# Altium schematic symbol library RayPCB20210502.SchLib: 220 symbols
Pins are listed as number, name and electrical type; pins without a type are passive.

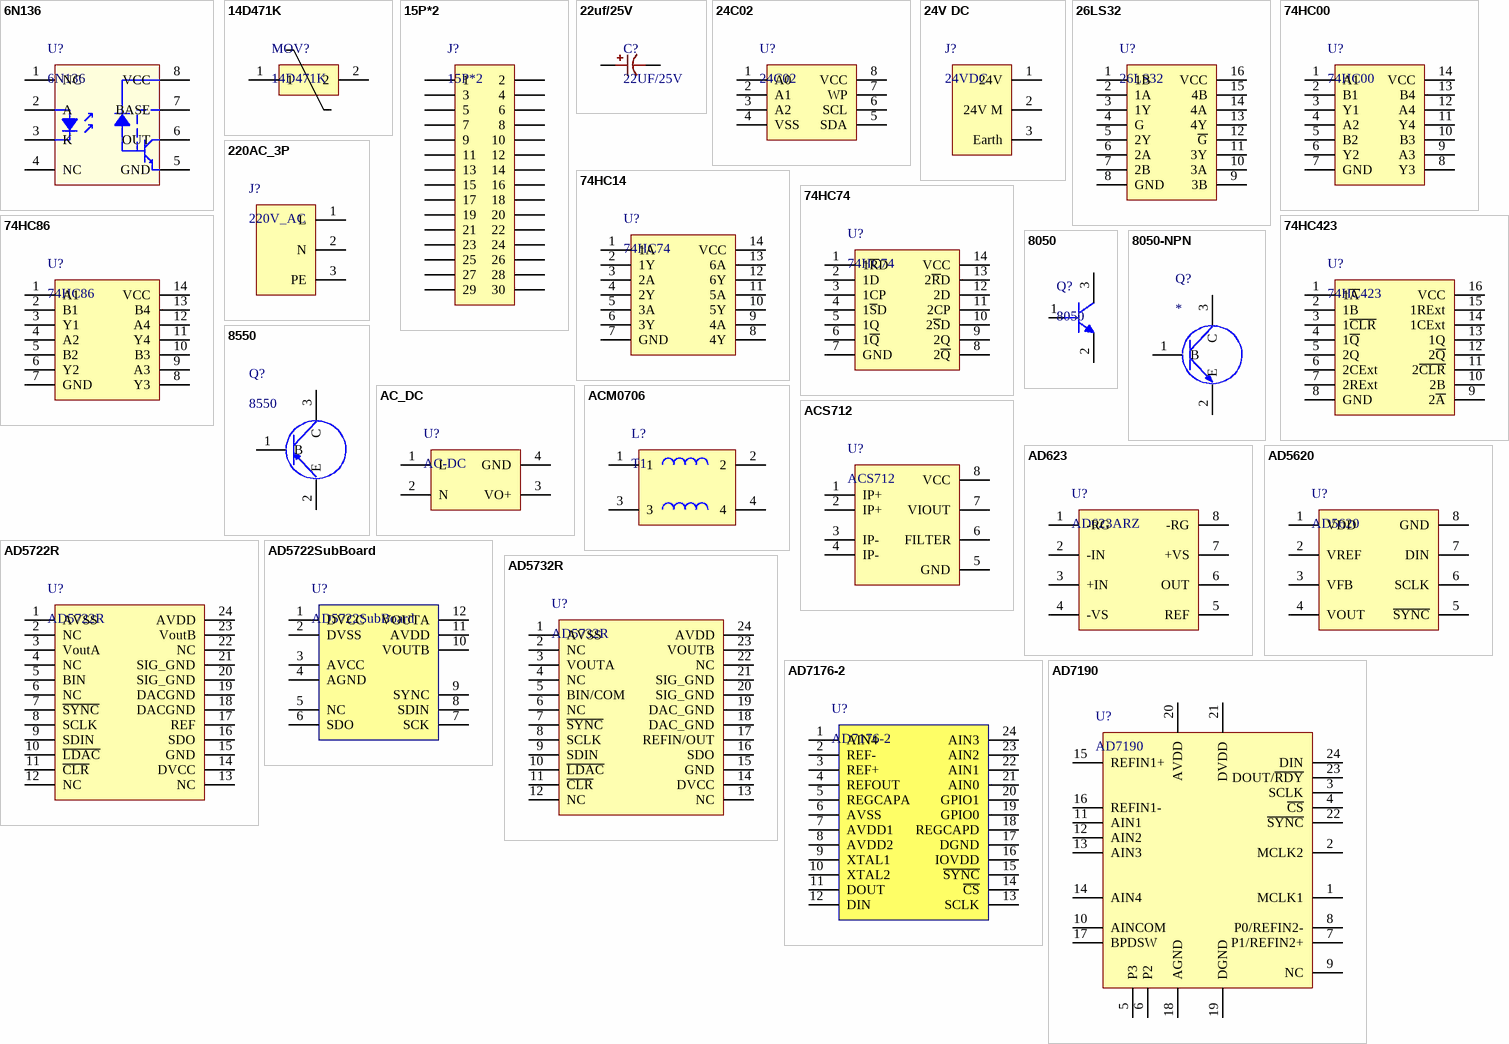
[diagram p0: symbols 6N136 to AD7190]

## 6N136
designator U?
pins: 1 NC, 2 A, 3 K, 4 NC, 5 GND, 6 OUT, 7 BASE, 8 VCC

## 14D471K
designator MOV?
footprint 14D471K
pins: 1, 2

## 15P*2
designator J?
footprint 2.54mm_15P*2
pins: 1, 2, 3, 4, 5, 6, 7, 8, 9, 10, 11, 12, 13, 14, 15, 16, 17, 18, 19, 20, 21, 22, 23, 24, 25, 26, 27, 28, 29, 30

## 22uf/25V
designator C?, comment 22UF/25V
footprint 22UF/25V (5*5.7)
pins: 1, 2

## 24C02
designator U?
footprint DIP8
pins: 1 A0, 2 A1, 3 A2, 4 VSS, 5 SDA, 6 SCL, 7 WP, 8 VCC

## 24V DC
designator J?, comment 24VDC
footprint CON3S
pins: 1 24V, 2 24V M, 3 Earth

## 26LS32
designator U?
pins: 1 1B, 2 1A, 3 1Y, 4 G, 5 2Y, 6 2A, 7 2B, 8 GND, 9 3B, 10 3A, 11 3Y, 12 ~{G}, 13 4Y, 14 4A, 15 4B, 16 VCC

## 74HC00
designator U?
footprint SOIC-14 (74HCXXX)
pins: 1 A1, 2 B1, 3 Y1, 4 A2, 5 B2, 6 Y2, 7 GND, 8 Y3, 9 A3, 10 B3, 11 Y4, 12 A4, 13 B4, 14 VCC

## 74HC14
designator U?, comment 74HC74
footprint SOIC-14 (74HCXXX)
pins: 1 1A, 2 1Y, 3 2A, 4 2Y, 5 3A, 6 3Y, 7 GND, 8 4Y, 9 4A, 10 5Y, 11 5A, 12 6Y, 13 6A, 14 VCC

## 74HC74
designator U?
footprint SOIC-14 (74HCXXX)
pins: 1 1~{R}D, 2 1D, 3 1CP, 4 1~{S}D, 5 1Q, 6 1~{Q}, 7 GND, 8 2~{Q}, 9 2Q, 10 2~{S}D, 11 2CP, 12 2D, 13 2~{R}D, 14 VCC

## 74HC86
designator U?
footprint SOIC-14 (74HCXXX)
pins: 1 A1, 2 B1, 3 Y1, 4 A2, 5 B2, 6 Y2, 7 GND, 8 Y3, 9 A3, 10 B3, 11 Y4, 12 A4, 13 B4, 14 VCC

## 74HC423
designator U?
pins: 1 1~{A}, 2 1B, 3 1~{CLR}, 4 1~{Q}, 5 2Q, 6 2CExt, 7 2RExt, 8 GND, 9 2~{A}, 10 2B, 11 2~{CLR}, 12 2~{Q}, 13 1Q, 14 1CExt, 15 1RExt, 16 VCC

## 220AC_3P
designator J?, comment 220V_AC
footprint CON3S
pins: 1 L, 2 N, 3 PE

## 8050
designator Q?
footprint SOT-23-3
pins: 1 B, 2 E, 3 C

## 8050-NPN
designator Q?
pins: 1 B, 2 E, 3 C

## 8550
designator Q?
footprint SOT-23-3
pins: 1 B, 2 E, 3 C

## AC_DC
designator U?, comment AC-DC
footprint XTQ3B-5-W (AC_DCXTQ3B-5-W)
pins: 1 L, 2 N, 3 VO+, 4 GND

## ACM0706
designator L?, comment T1
footprint ACM0706
pins: 1, 2, 3, 4

## ACS712
designator U?
footprint SOIC8
pins: 1 IP+, 2 IP+, 3 IP-, 4 IP-, 5 GND, 6 FILTER, 7 VIOUT, 8 VCC

## AD623
designator U?, comment AD623ARZ
footprint SOIC8
pins: 1 -RG, 2 -IN, 3 +IN, 4 -VS, 5 REF, 6 OUT, 7 +VS, 8 -RG

## AD5620
designator U?
pins: 1 VDD, 2 VREF, 3 VFB, 4 VOUT, 5 ~{SYNC}, 6 SCLK, 7 DIN, 8 GND

## AD5722R
designator U?
footprint TSSOP-24 (AD7190 RU-24)
pins: 1 AVSS, 2 NC, 3 VoutA, 4 NC, 5 BIN, 6 NC, 7 ~{SYNC}, 8 SCLK, 9 SDIN, 10 ~{LDAC}, 11 ~{CLR}, 12 NC, 13 NC, 14 DVCC, 15 GND, 16 SDO, 17 REF, 18 DACGND, 19 DACGND, 20 SIG_GND, 21 SIG_GND, 22 NC, 23 VoutB, 24 AVDD

## AD5722SubBoard
designator U?
footprint AD5722SubBoard
pins: 1 DVCC, 2 DVSS, 3 AVCC, 4 AGND, 5 NC, 6 SDO, 7 SCK, 8 SDIN, 9 SYNC, 10 VOUTB, 11 AVDD, 12 VOUTA

## AD5732R
designator U?
footprint TSSOP-24 (AD7190 RU-24)
pins: 1 AVSS, 2 NC, 3 VOUTA, 4 NC, 5 BIN/COM, 6 NC, 7 ~{SYNC}, 8 SCLK, 9 SDIN, 10 ~{LDAC}, 11 ~{CLR}, 12 NC, 13 NC, 14 DVCC, 15 GND, 16 SDO, 17 REFIN/OUT, 18 DAC_GND, 19 DAC_GND, 20 SIG_GND, 21 SIG_GND, 22 NC, 23 VOUTB, 24 AVDD

## AD7176-2
designator U?
footprint TSSOP-24 (AD7190 RU-24)
pins: 1 AIN4, 2 REF-, 3 REF+, 4 REFOUT, 5 REGCAPA, 6 AVSS, 7 AVDD1, 8 AVDD2, 9 XTAL1, 10 XTAL2, 11 DOUT, 12 DIN, 13 SCLK, 14 ~{CS}, 15 ~{SYNC}, 16 IOVDD, 17 DGND, 18 REGCAPD, 19 GPIO0, 20 GPIO1, 21 AIN0, 22 AIN1, 23 AIN2, 24 AIN3

## AD7190
designator U?
footprint TSSOP-24 (AD7190 RU-24)
pins: 1 MCLK1, 2 MCLK2, 3 SCLK, 4 ~{CS}, 5 P3, 6 P2, 7 P1/REFIN2+, 8 P0/REFIN2-, 9 NC, 10 AINCOM, 11 AIN1, 12 AIN2, 13 AIN3, 14 AIN4, 15 REFIN1+, 16 REFIN1-, 17 BPDSW, 18 AGND, 19 DGND, 20 AVDD, 21 DVDD, 22 ~{SYNC}, 23 DOUT/~{RDY}, 24 DIN

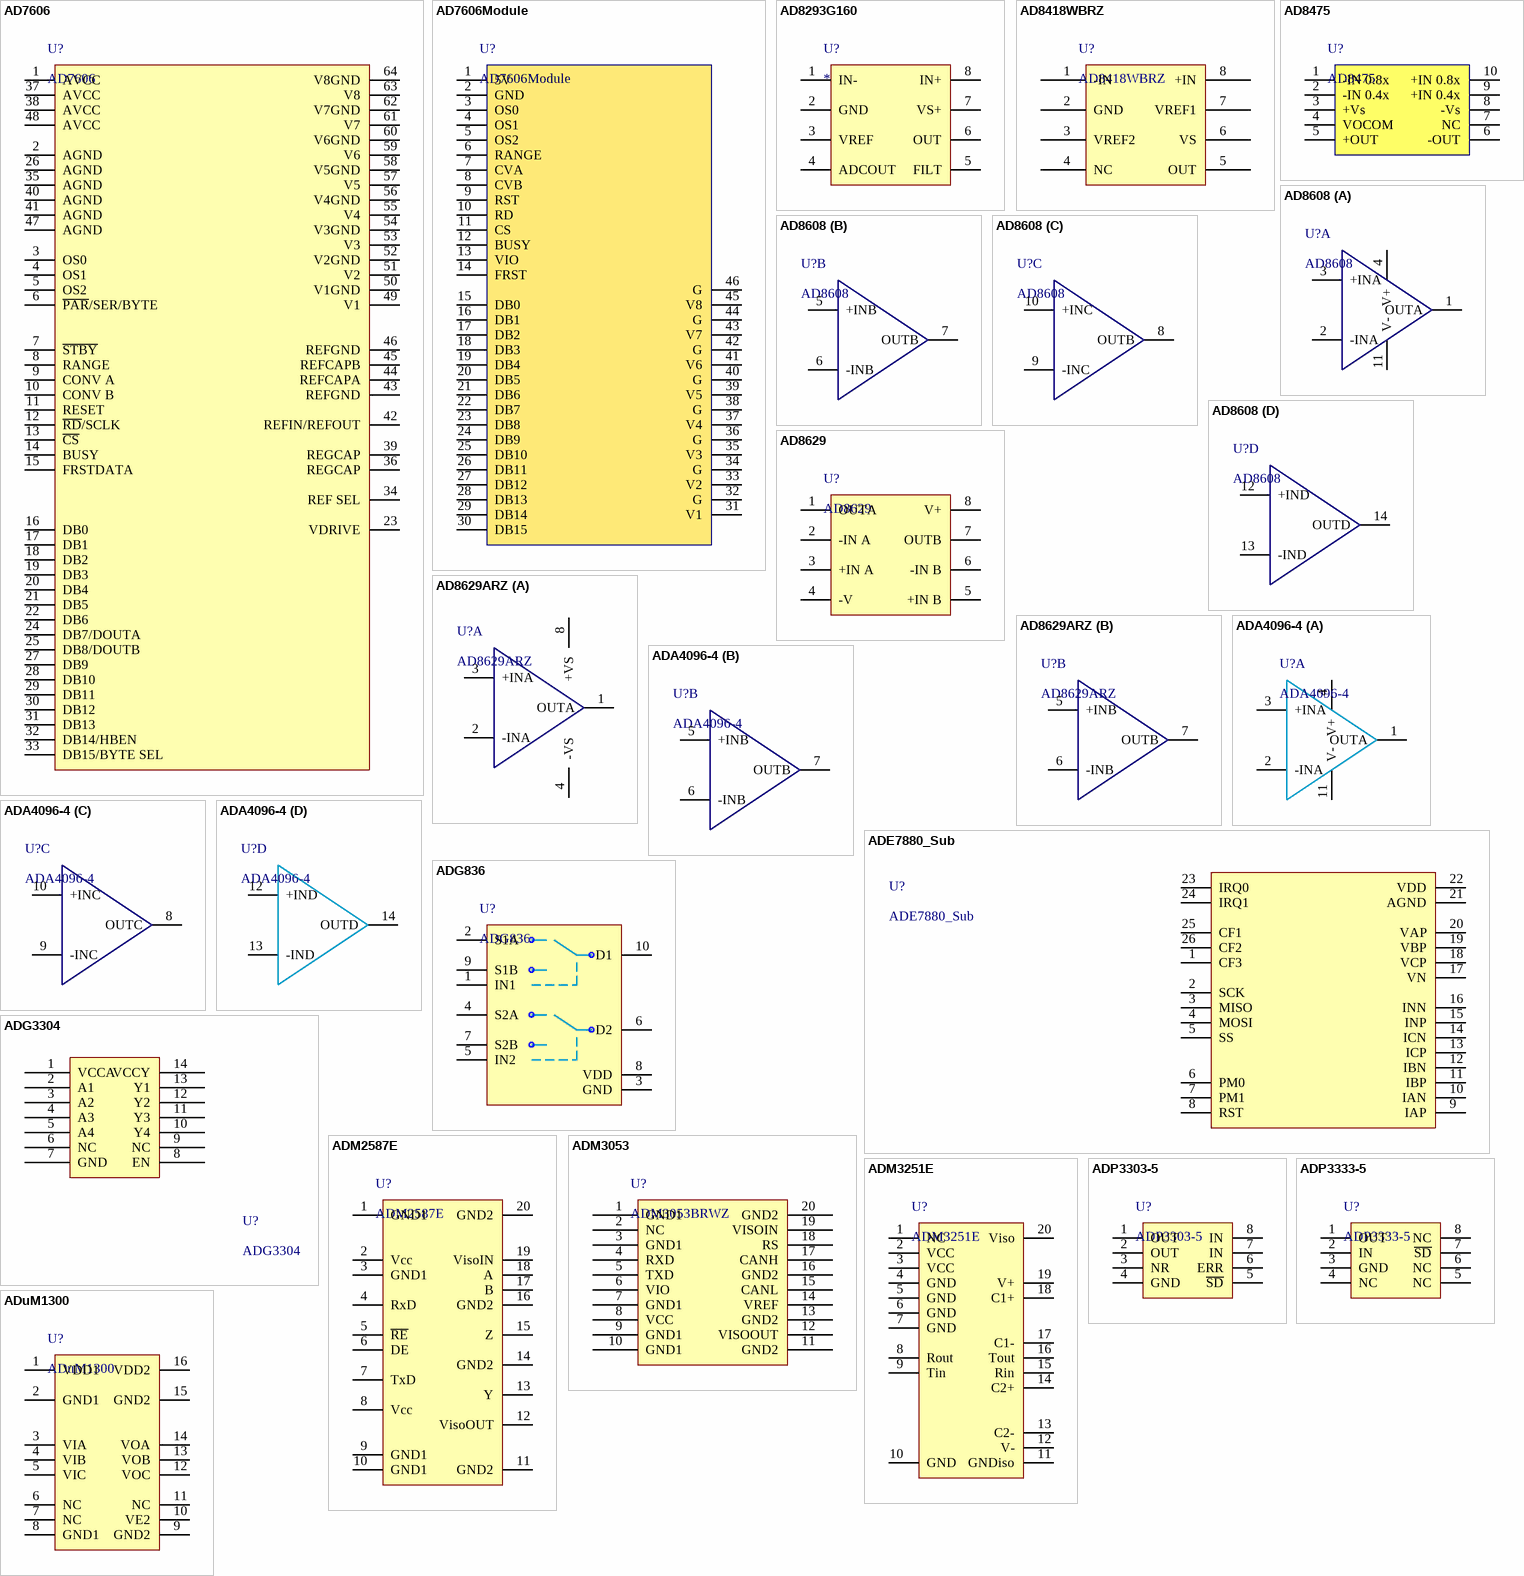
[diagram p1: symbols AD7606 to ADuM1300]

## AD7606
designator U?
footprint LQFP64
pins: 1 AVCC, 2 AGND, 3 OS0, 4 OS1, 5 OS2, 6 ~{PAR}/SER/BYTE, 7 ~{STBY}, 8 RANGE, 9 CONV A, 10 CONV B, 11 RESET, 12 ~{RD}/SCLK, 13 ~{CS}, 14 BUSY, 15 FRSTDATA, 16 DB0, 17 DB1, 18 DB2, 19 DB3, 20 DB4, 21 DB5, 22 DB6, 23 VDRIVE, 24 DB7/DOUTA, 25 DB8/DOUTB, 26 AGND, 27 DB9, 28 DB10, 29 DB11, 30 DB12, 31 DB13, 32 DB14/HBEN, 33 DB15/BYTE SEL, 34 REF SEL, 35 AGND, 36 REGCAP, 37 AVCC, 38 AVCC, 39 REGCAP, 40 AGND, 41 AGND, 42 REFIN/REFOUT, 43 REFGND, 44 REFCAPA, 45 REFCAPB, 46 REFGND, 47 AGND, 48 AVCC, 49 V1, 50 V1GND, 51 V2, 52 V2GND, 53 V3, 54 V3GND, 55 V4, 56 V4GND, 57 V5, 58 V5GND, 59 V6, 60 V6GND, 61 V7, 62 V7GND, 63 V8, 64 V8GND

## AD7606Module
designator U?
footprint AD7606Module
pins: 1 5V, 2 GND, 3 OS0, 4 OS1, 5 OS2, 6 RANGE, 7 CVA, 8 CVB, 9 RST, 10 RD, 11 CS, 12 BUSY, 13 VIO, 14 FRST, 15 DB0, 16 DB1, 17 DB2, 18 DB3, 19 DB4, 20 DB5, 21 DB6, 22 DB7, 23 DB8, 24 DB9, 25 DB10, 26 DB11, 27 DB12, 28 DB13, 29 DB14, 30 DB15, 31 V1, 32 G, 33 V2, 34 G, 35 V3, 36 G, 37 V4, 38 G, 39 V5, 40 G, 41 V6, 42 G, 43 V7, 44 G, 45 V8, 46 G

## AD8293G160
designator U?
pins: 1 IN-, 2 GND, 3 VREF, 4 ADCOUT, 5 FILT, 6 OUT, 7 VS+, 8 IN+

## AD8418WBRZ
designator U?
footprint SOIC8
pins: 1 -IN, 2 GND, 3 VREF2, 4 NC, 5 OUT, 6 VS, 7 VREF1, 8 +IN

## AD8475
designator U?
footprint MSOP-10 (RM-10(AD8475))
pins: 1 -IN 0.8x, 2 -IN 0.4x, 3 +Vs, 4 VOCOM, 5 +OUT, 6 -OUT, 7 NC, 8 -Vs, 9 +IN 0.4x, 10 +IN 0.8x

## AD8608
designator U?
footprint SOIC-14 (74HCXXX)
part A pins: 1 OUTA, 2 -INA, 3 +INA, 4 V+, 11 V-
part B pins: 5 +INB, 6 -INB, 7 OUTB
part C pins: 8 OUTB, 9 -INC, 10 +INC
part D pins: 12 +IND, 13 -IND, 14 OUTD

## AD8629
designator U?
footprint SOIC8
pins: 1 OUTA, 2 -IN A, 3 +IN A, 4 -V, 5 +IN B, 6 -IN B, 7 OUTB, 8 V+

## AD8629ARZ
designator U?
footprint SOIC8
part A pins: 1 OUTA, 2 -INA, 3 +INA, 4 -VS, 8 +VS
part B pins: 5 +INB, 6 -INB, 7 OUTB

## ADA4096-4
designator U?
footprint TSSOP-14
part A pins: 1 OUTA, 2 -INA, 3 +INA, 4 V+, 11 V-
part B pins: 5 +INB, 6 -INB, 7 OUTB
part C pins: 8 OUTC, 9 -INC, 10 +INC
part D pins: 12 +IND, 13 -IND, 14 OUTD

## ADE7880_Sub
designator U?
footprint ADE7880_Sub
pins: 1 CF3, 2 SCK, 3 MISO, 4 MOSI, 5 SS, 6 PM0, 7 PM1, 8 RST, 9 IAP, 10 IAN, 11 IBP, 12 IBN, 13 ICP, 14 ICN, 15 INP, 16 INN, 17 VN, 18 VCP, 19 VBP, 20 VAP, 21 AGND, 22 VDD, 23 IRQ0, 24 IRQ1, 25 CF1, 26 CF2

## ADG836
designator U?
footprint MSOP-10 (RM-10(AD8475))
pins: 1 IN1, 2 S1A, 3 GND, 4 S2A, 5 IN2, 6 D2, 7 S2B, 8 VDD, 9 S1B, 10 D1

## ADG3304
designator U?
footprint TSSOP-14
pins: 1 VCCA, 2 A1, 3 A2, 4 A3, 5 A4, 6 NC, 7 GND, 8 EN, 9 NC, 10 Y4, 11 Y3, 12 Y2, 13 Y1, 14 VCCY

## ADM2587E
designator U?
footprint SOIC W 20
pins: 1 GND1, 2 Vcc, 3 GND1, 4 RxD, 5 ~{RE}, 6 DE, 7 TxD, 8 Vcc, 9 GND1, 10 GND1, 11 GND2, 12 VisoOUT, 13 Y, 14 GND2, 15 Z, 16 GND2, 17 B, 18 A, 19 VisoIN, 20 GND2

## ADM3053
designator U?, comment ADM3053BRWZ
footprint SOIC W 20
pins: 1 GND1, 2 NC, 3 GND1, 4 RXD, 5 TXD, 6 VIO, 7 GND1, 8 VCC, 9 GND1, 10 GND1, 11 GND2, 12 VISOOUT, 13 GND2, 14 VREF, 15 CANL, 16 GND2, 17 CANH, 18 RS, 19 VISOIN, 20 GND2

## ADM3251E
designator U?
footprint SOIC W 20
pins: 1 NC, 2 VCC, 3 VCC, 4 GND, 5 GND, 6 GND, 7 GND, 8 Rout, 9 Tin, 10 GND, 11 GNDiso, 12 V-, 13 C2-, 14 C2+, 15 Rin, 16 Tout, 17 C1-, 18 C1+, 19 V+, 20 Viso

## ADP3303-5
designator U?
pins: 1 OUT, 2 OUT, 3 NR, 4 GND, 5 ~{SD}, 6 ERR, 7 IN, 8 IN

## ADP3333-5
designator U?
pins: 1 OUT, 2 IN, 3 GND, 4 NC, 5 NC, 6 NC, 7 ~{SD}, 8 NC

## ADuM1300
designator U?
footprint SOL-16 (ADUM1300)
pins: 1 VDD1, 2 GND1, 3 VIA, 4 VIB, 5 VIC, 6 NC, 7 NC, 8 GND1, 9 GND2, 10 VE2, 11 NC, 12 VOC, 13 VOB, 14 VOA, 15 GND2, 16 VDD2

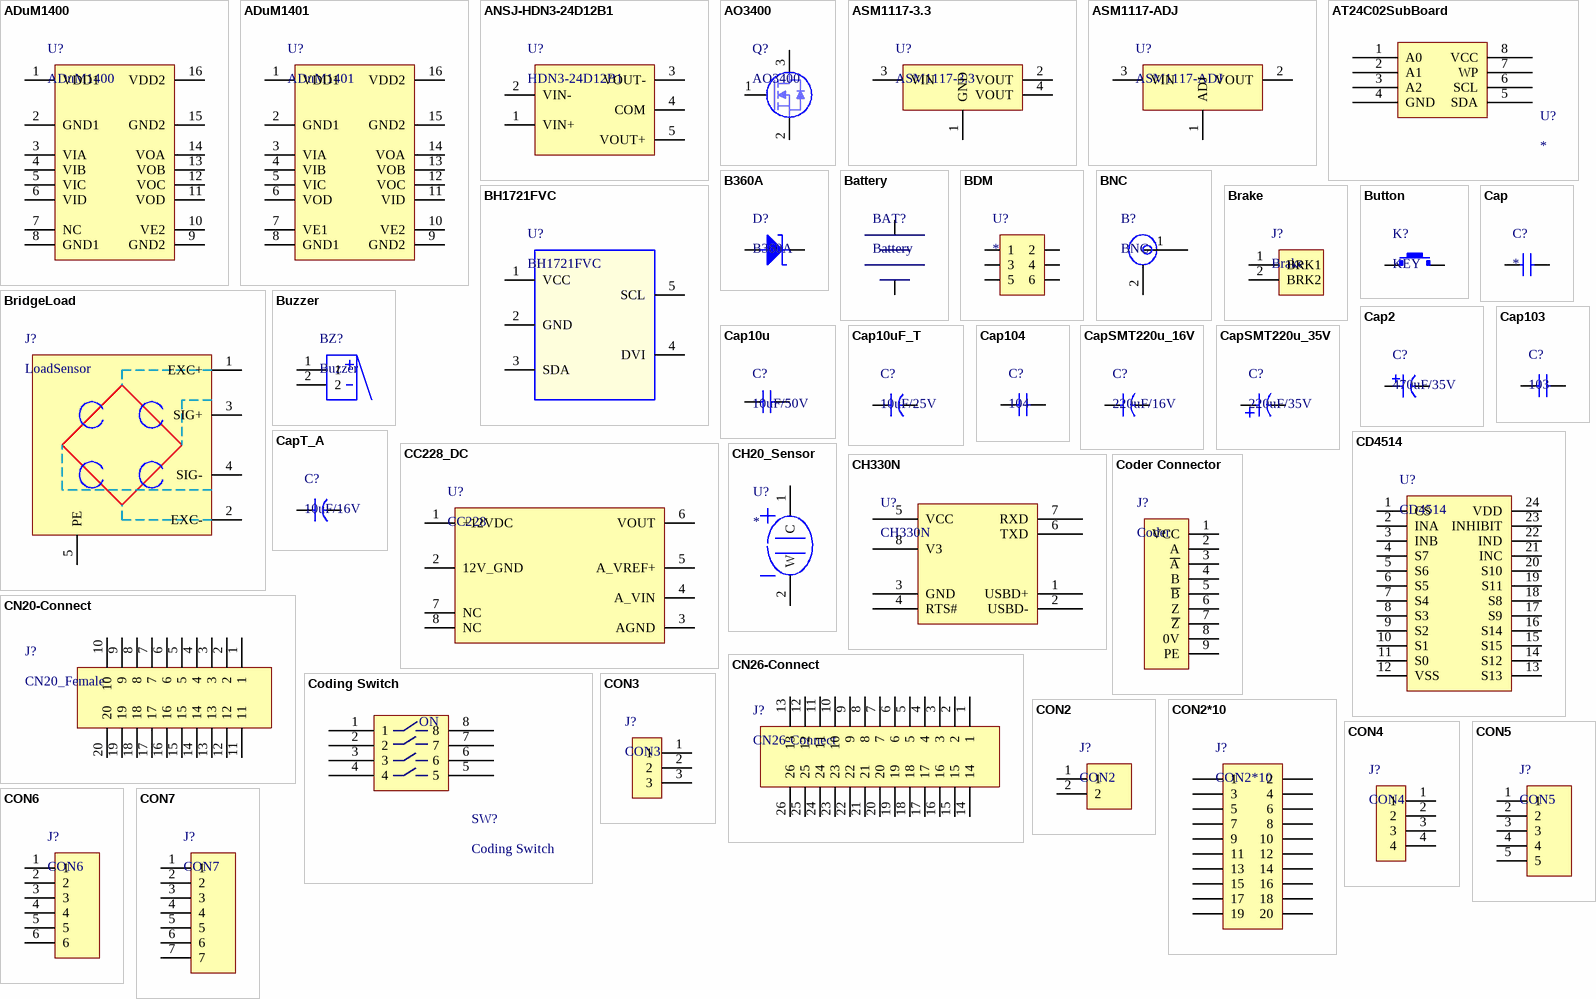
[diagram p2: symbols ADuM1400 to CON7]

## ADuM1400
designator U?
footprint SOL-16 (ADUM1300)
pins: 1 VDD1, 2 GND1, 3 VIA, 4 VIB, 5 VIC, 6 VID, 7 NC, 8 GND1, 9 GND2, 10 VE2, 11 VOD, 12 VOC, 13 VOB, 14 VOA, 15 GND2, 16 VDD2

## ADuM1401
designator U?
footprint SOL-16 (ADUM1300)
pins: 1 VDD1, 2 GND1, 3 VIA, 4 VIB, 5 VIC, 6 VOD, 7 VE1, 8 GND1, 9 GND2, 10 VE2, 11 VID, 12 VOC, 13 VOB, 14 VOA, 15 GND2, 16 VDD2

## ANSJ-HDN3-24D12B1
designator U?, comment HDN3-24D12B1
footprint HDN3-24D12B1 (24V-+-12V 3W)
pins: 1 VIN+, 2 VIN-, 3 VOUT-, 4 COM, 5 VOUT+

## AO3400
designator Q?
footprint SOT-23-3
pins: 1 G, 2 S, 3 D

## ASM1117-3.3
designator U?
footprint SOT-223
pins: 1 GND, 2 VOUT, 3 VIN, 4 VOUT

## ASM1117-ADJ
designator U?
footprint SOT-223
pins: 1 ADJ, 2 VOUT, 3 VIN

## AT24C02SubBoard
designator U?
footprint AT24C02SubBoard
pins: 1 A0, 2 A1, 3 A2, 4 GND, 5 SDA, 6 SCL, 7 WP, 8 VCC

## B360A
designator D?
footprint SMA (RS1M)
pins: 1, 2

## Battery
designator BAT?
footprint BATTERY (SO_2)
pins: 1, 2

## BDM
designator U?
pins: 1, 2, 3, 4, 5, 6

## BH1721FVC
designator U?
footprint WSOF5 (BH1721)
pins: 1 VCC, 2 GND, 3 SDA, 4 DVI, 5 SCL

## BNC
designator B?
footprint BNC_4_1
pins: 1, 2

## Brake
designator J?
pins: 1 BRK1, 2 BRK2

## BridgeLoad
designator J?, comment LoadSensor
pins: 1 EXC+, 2 EXC-, 3 SIG+, 4 SIG-, 5 PE

## Button
designator K?, comment KEY
footprint Key
pins: 1, 2

## Buzzer
designator BZ?
footprint BUZZER
pins: 1, 2

## Cap
designator C?
Value: *
footprint 0805C
pins: 1, 2

## Cap2
designator C?, comment 470uF/35V
pins: 1, 2

## Cap10u
designator C?, comment 10uF/50V
Value: 10uF/50V
footprint 1210c
pins: 1, 2

## Cap10uF_T
designator C?, comment 10uF/25V
Value: 10uF/16V
footprint 1210C_TAN
pins: 1, 2

## Cap103
designator C?, comment 103
footprint 0805C
pins: 1, 2

## Cap104
designator C?, comment 104
Value: 104
footprint 0805C
pins: 1, 2

## CapSMT220u_16V
designator C?, comment 220uF/16V
footprint ECAP_220u (220u/16V_SMT)
pins: 1, 2

## CapSMT220u_35V
designator C?, comment 220uF/35V
footprint ECAP_220u35V (220u/35V)
pins: 1, 2

## CapT_A
designator C?, comment 10uF/16V
footprint 1210_TAN (钽电容00UF/16V)
pins: 1, 2

## CC228_DC
designator U?, comment CC228
footprint CC228
pins: 1 +12VDC, 2 12V_GND, 3 AGND, 4 A_VIN, 5 A_VREF+, 6 VOUT, 7 NC, 8 NC

## CD4514
designator U?
footprint SOIC 24
pins: 1 CS, 2 INA, 3 INB, 4 S7, 5 S6, 6 S5, 7 S4, 8 S3, 9 S2, 10 S1, 11 S0, 12 VSS, 13 S13, 14 S12, 15 S15, 16 S14, 17 S9, 18 S8, 19 S11, 20 S10, 21 INC, 22 IND, 23 INHIBIT, 24 VDD

## CH20_Sensor
designator U?
footprint ME2_CH2O (CH2O SENSOR)
pins: 1 C, 2 W

## CH330N
designator U?
footprint SOIC8
pins: 1 USBD+, 2 USBD-, 3 GND, 4 RTS#, 5 VCC, 6 TXD, 7 RXD, 8 V3

## CN20-Connect
designator J?, comment CN20_Female
footprint CN20-Female
pins: 1, 2, 3, 4, 5, 6, 7, 8, 9, 10, 11, 12, 13, 14, 15, 16, 17, 18, 19, 20

## CN26-Connect
designator J?
footprint CN26-Female
pins: 1, 2, 3, 4, 5, 6, 7, 8, 9, 10, 11, 12, 13, 14, 15, 16, 17, 18, 19, 20, 21, 22, 23, 24, 25, 26

## Coder Connector
designator J?, comment Coder
pins: 1 VCC, 2 A, 3 ~{A}, 4 B, 5 ~{B}, 6 Z, 7 ~{Z}, 8 0V, 9 PE

## Coding Switch
designator SW?
pins: 1, 2, 3, 4, 5, 6, 7, 8
text: ON

## CON2
designator J?
footprint CON2S
pins: 1, 2

## CON2*10
designator J?
pins: 1, 2, 3, 4, 5, 6, 7, 8, 9, 10, 11, 12, 13, 14, 15, 16, 17, 18, 19, 20

## CON3
designator J?
pins: 1, 2, 3

## CON4
designator J?
pins: 1, 2, 3, 4

## CON5
designator J?
pins: 1, 2, 3, 4, 5

## CON6
designator J?
pins: 1, 2, 3, 4, 5, 6

## CON7
designator J?
pins: 1, 2, 3, 4, 5, 6, 7

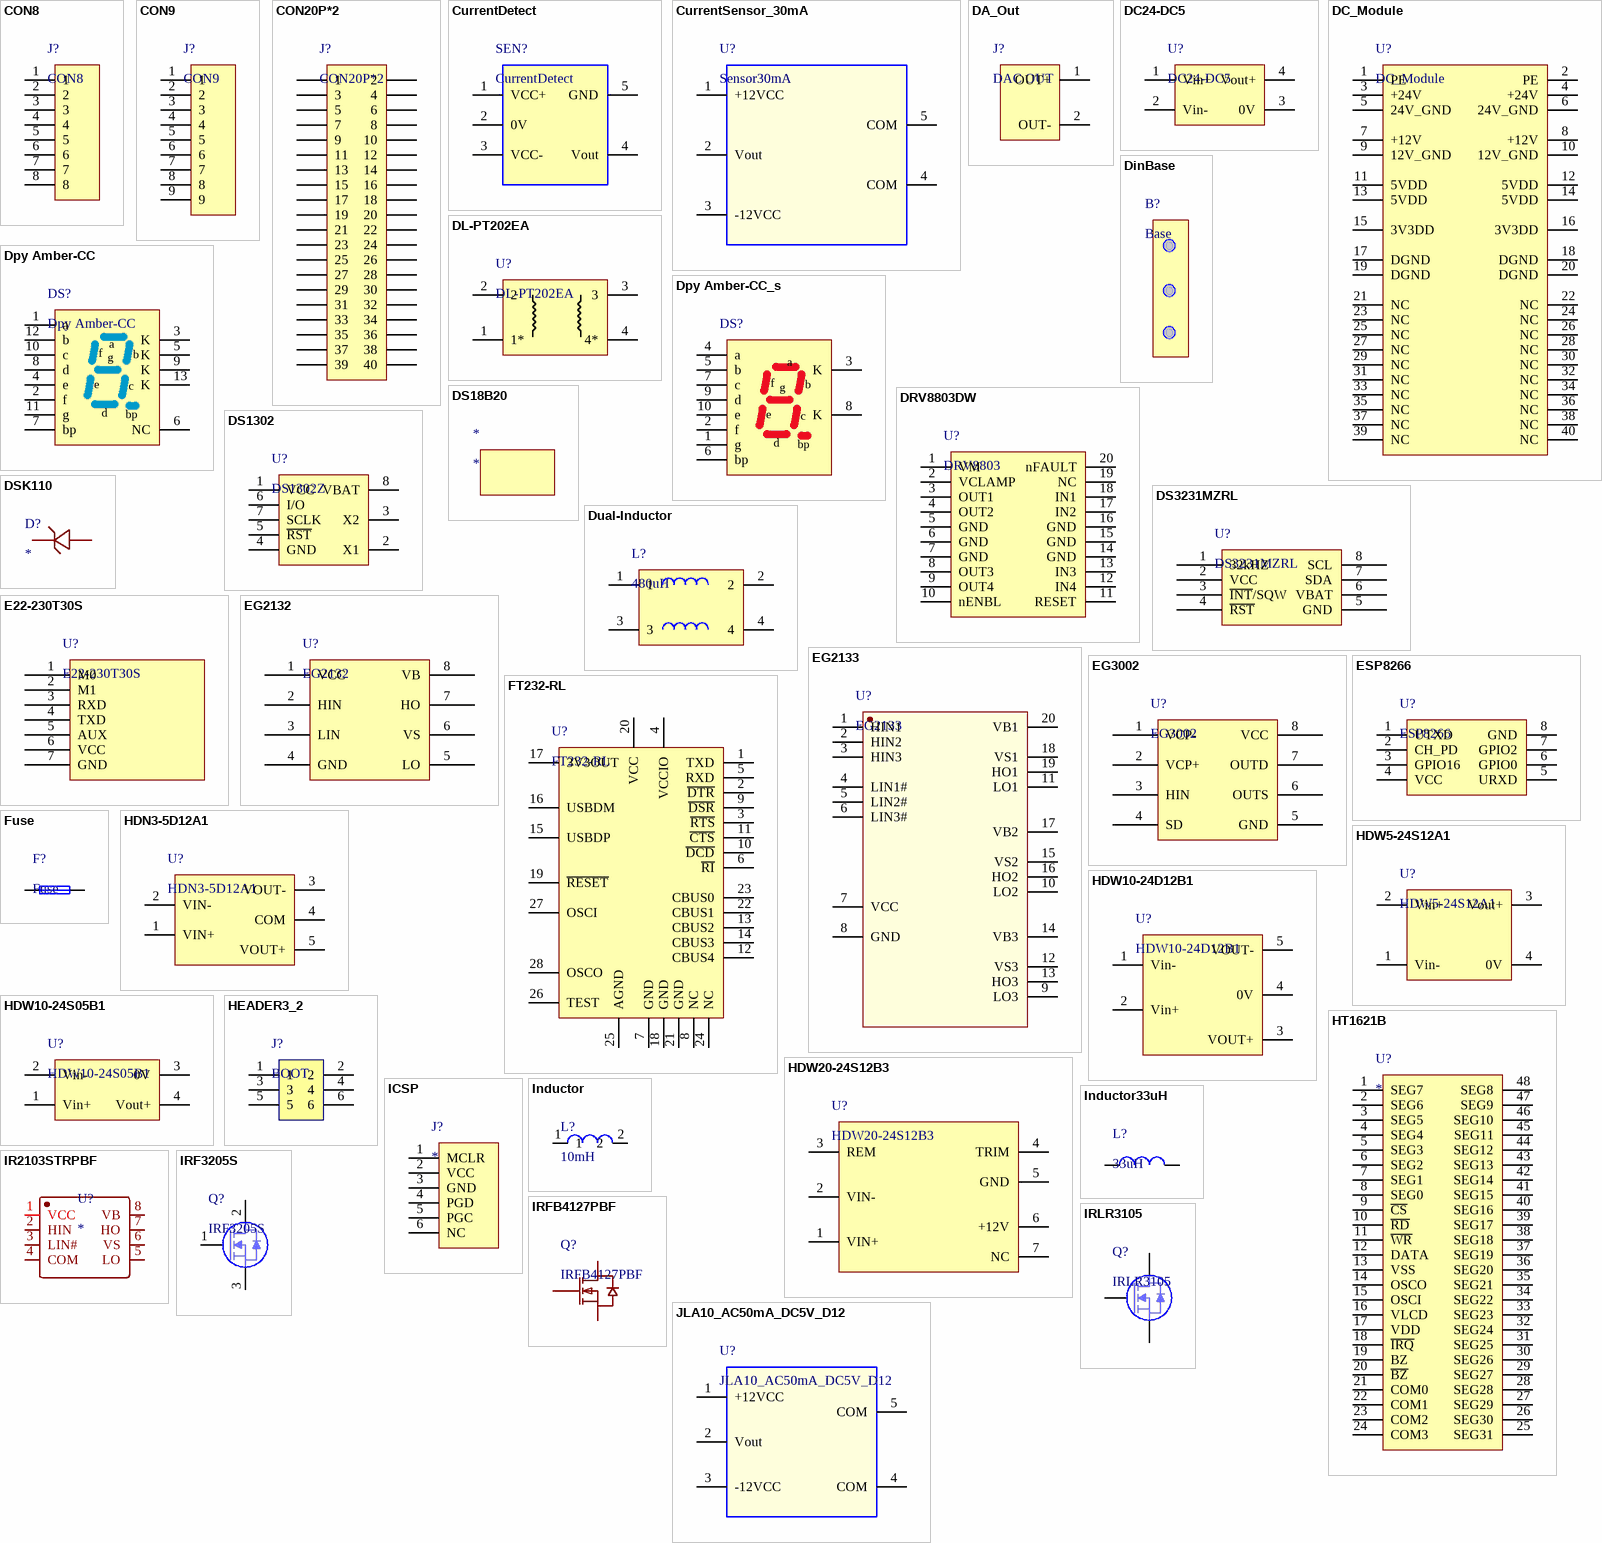
[diagram p3: symbols CON8 to JLA10_AC50mA_DC5V_D12]

## CON8
designator J?
footprint CON8S
pins: 1, 2, 3, 4, 5, 6, 7, 8

## CON9
designator J?
footprint CON9S
pins: 1, 2, 3, 4, 5, 6, 7, 8, 9

## CON20P*2
designator J?
footprint 2.54mm-20P*2
pins: 1, 2, 3, 4, 5, 6, 7, 8, 9, 10, 11, 12, 13, 14, 15, 16, 17, 18, 19, 20, 21, 22, 23, 24, 25, 26, 27, 28, 29, 30, 31, 32, 33, 34, 35, 36, 37, 38, 39, 40

## CurrentDetect
designator SEN?
pins: 1 VCC+, 2 0V, 3 VCC-, 4 Vout, 5 GND

## CurrentSensor_30mA
designator U?, comment Sensor30mA
footprint CurrentSensor
pins: 1 +12VCC, 2 Vout, 3 -12VCC, 4 COM, 5 COM

## DA_Out
designator J?, comment DAC OUT
pins: 1 OUT+, 2 OUT-

## DC24-DC5
designator U?
footprint FEC15-24S05W (24V DC -5V DC)
pins: 1 Vin+, 2 Vin-, 3 0V, 4 Vout+

## DC_Module
designator U?
footprint DC_Module
pins: 1 PE, 2 PE, 3 +24V, 4 +24V, 5 24V_GND, 6 24V_GND, 7 +12V, 8 +12V, 9 12V_GND, 10 12V_GND, 11 5VDD, 12 5VDD, 13 5VDD, 14 5VDD, 15 3V3DD, 16 3V3DD, 17 DGND, 18 DGND, 19 DGND, 20 DGND, 21 NC, 22 NC, 23 NC, 24 NC, 25 NC, 26 NC, 27 NC, 28 NC, 29 NC, 30 NC, 31 NC, 32 NC, 33 NC, 34 NC, 35 NC, 36 NC, 37 NC, 38 NC, 39 NC, 40 NC

## DinBase
designator B?, comment Base
footprint DINBase

## DL-PT202EA
designator U?
footprint DL-PT202EA
pins: 1 1*, 2, 3, 4 4*

## Dpy Amber-CC
designator DS?
footprint LEDDIP-13/C5.08RHD (LargerONE)
pins: 1 a, 2 f, 3 K, 4 e, 5 K, 6 NC, 7 bp, 8 d, 9 K, 10 c, 11 g, 12 b, 13 K

## Dpy Amber-CC_s
designator DS?, comment DS  (value not drawn)
footprint LEDDIP-10/C5.08RHD (SmallOne)
pins: 1 g, 2 f, 3 K, 4 a, 5 b, 6 bp, 7 c, 8 K, 9 d, 10 e

## DRV8803DW
designator U?, comment DRV8803
footprint SOIC W 20
pins: 1 VM, 2 VCLAMP, 3 OUT1, 4 OUT2, 5 GND, 6 GND, 7 GND, 8 OUT3, 9 OUT4, 10 nENBL, 11 RESET, 12 IN4, 13 IN3, 14 GND, 15 GND, 16 GND, 17 IN2, 18 IN1, 19 NC, 20 nFAULT

## DS18B20
designator *

## DS1302
designator U?, comment DS1302Z
footprint SOIC8
pins: 1 VCC, 2 X1, 3 X2, 4 GND, 5 ~{RST}, 6 I/O, 7 SCLK, 8 VBAT

## DS3231MZRL
designator U?
footprint SO_8 (MAX3485ESA)
pins: 1 32kHZ, 2 VCC, 3 ~{INT}/SQW, 4 ~{RST}, 5 GND, 6 VBAT, 7 SDA, 8 SCL

## DSK110
designator D?
footprint DSK110 (SOD-123)
pins: 1 C, 2 A

## Dual-Inductor
designator L?, comment 480uH
footprint EP13M (共模电感)
pins: 1, 2, 3, 4

## E22-230T30S
designator U?
footprint E22-230T30S
pins: 1 M0, 2 M1, 3 RXD, 4 TXD, 5 AUX, 6 VCC, 7 GND

## EG2132
designator U?
footprint SOP8-T (6N136)
pins: 1 VCC, 2 HIN, 3 LIN, 4 GND, 5 LO, 6 VS, 7 HO, 8 VB

## EG2133
designator U?
footprint TSSOP20
pins: 1 HIN1, 2 HIN2, 3 HIN3, 4 LIN1#, 5 LIN2#, 6 LIN3#, 7 VCC, 8 GND, 9 LO3, 10 LO2, 11 LO1, 12 VS3, 13 HO3, 14 VB3, 15 VS2, 16 HO2, 17 VB2, 18 VS1, 19 HO1, 20 VB1
1 alternate drawing of the same symbol

## EG3002
designator U?
footprint SOP8-T (6N136)
pins: 1 VCP-, 2 VCP+, 3 HIN, 4 SD, 5 GND, 6 OUTS, 7 OUTD, 8 VCC

## ESP8266
designator U?
footprint 2.54_4Px2_PHI
pins: 1 UTXD, 2 CH_PD, 3 GPIO16, 4 VCC, 5 URXD, 6 GPIO0, 7 GPIO2, 8 GND

## FT232-RL
designator U?
footprint SSOP28 (FT232_RL)
pins: 1 TXD, 2 ~{DTR}, 3 ~{RTS}, 4 VCCIO, 5 RXD, 6 ~{RI}, 7 GND, 8 NC, 9 ~{DSR}, 10 ~{DCD}, 11 ~{CTS}, 12 CBUS4, 13 CBUS2, 14 CBUS3, 15 USBDP, 16 USBDM, 17 3V3OUT, 18 GND, 19 ~{RESET}, 20 VCC, 21 GND, 22 CBUS1, 23 CBUS0, 24 NC, 25 AGND, 26 TEST, 27 OSCI, 28 OSCO

## Fuse
designator F?
pins: 1, 2

## HDN3-5D12A1
designator U?
footprint HDN3-24D12B1 (24V-+-12V 3W)
pins: 1 VIN+, 2 VIN-, 3 VOUT-, 4 COM, 5 VOUT+

## HDW5-24S12A1
designator U?
footprint HDW5-24S12A1
pins: 1 Vin-, 2 Vin+, 3 Vout+, 4 0V

## HDW10-24D12B1
designator U?
footprint HDW10-24D12B1
pins: 1 Vin-, 2 Vin+, 3 VOUT+, 4 0V, 5 VOUT-

## HDW10-24S05B1
designator U?
footprint FEC15-24S05W (24V DC -5V DC)
pins: 1 Vin+, 2 Vin-, 3 0V, 4 Vout+

## HDW20-24S12B3
designator U?
footprint HDW20-24S12B3
pins: 1 VIN+, 2 VIN-, 3 REM, 4 TRIM, 5 GND, 6 +12V, 7 NC

## HEADER3_2
designator J?, comment BOOT
footprint 2.54PHI3_2
pins: 1, 2, 3, 4, 5, 6

## HT1621B
designator U?
footprint SOP-48
pins: 1 SEG7, 2 SEG6, 3 SEG5, 4 SEG4, 5 SEG3, 6 SEG2, 7 SEG1, 8 SEG0, 9 ~{CS}, 10 ~{RD}, 11 ~{WR}, 12 DATA, 13 VSS, 14 OSCO, 15 OSCI, 16 VLCD, 17 VDD, 18 ~{IRQ}, 19 BZ, 20 ~{BZ}, 21 COM0, 22 COM1, 23 COM2, 24 COM3, 25 SEG31, 26 SEG30, 27 SEG29, 28 SEG28, 29 SEG27, 30 SEG26, 31 SEG25, 32 SEG24, 33 SEG23, 34 SEG22, 35 SEG21, 36 SEG20, 37 SEG19, 38 SEG18, 39 SEG17, 40 SEG16, 41 SEG15, 42 SEG14, 43 SEG13, 44 SEG12, 45 SEG11, 46 SEG10, 47 SEG9, 48 SEG8

## ICSP
designator J?
footprint ICSP
pins: 1 MCLR, 2 VCC, 3 GND, 4 PGD, 5 PGC, 6 NC

## Inductor
designator L?, comment 10mH
pins: 1, 2

## Inductor33uH
designator L?, comment 33uH
footprint L330 (Inductor 33uH)
pins: 1, 2

## IR2103STRPBF
designator U?
footprint IR2103STRPBF
pins: 1 VCC, 2 HIN, 3 LIN#, 4 COM, 5 LO, 6 VS, 7 HO, 8 VB

## IRF3205S
designator Q?
footprint D2PAK
pins: 1 D, 2 G, 3 S

## IRFB4127PBF
designator Q?
footprint IRFB4127 (TO-220AB)
pins: 1 G, 2 D, 3 S

## IRLR3105
designator Q?
footprint TO-252AA-RF3303B (IRLR3303 NMOS)
pins: 1 G, 2 D, 3 S

## JLA10_AC50mA_DC5V_D12
designator U?
footprint JLA10_AC50mA_DC5V_D12
pins: 1 +12VCC, 2 Vout, 3 -12VCC, 4 COM, 5 COM

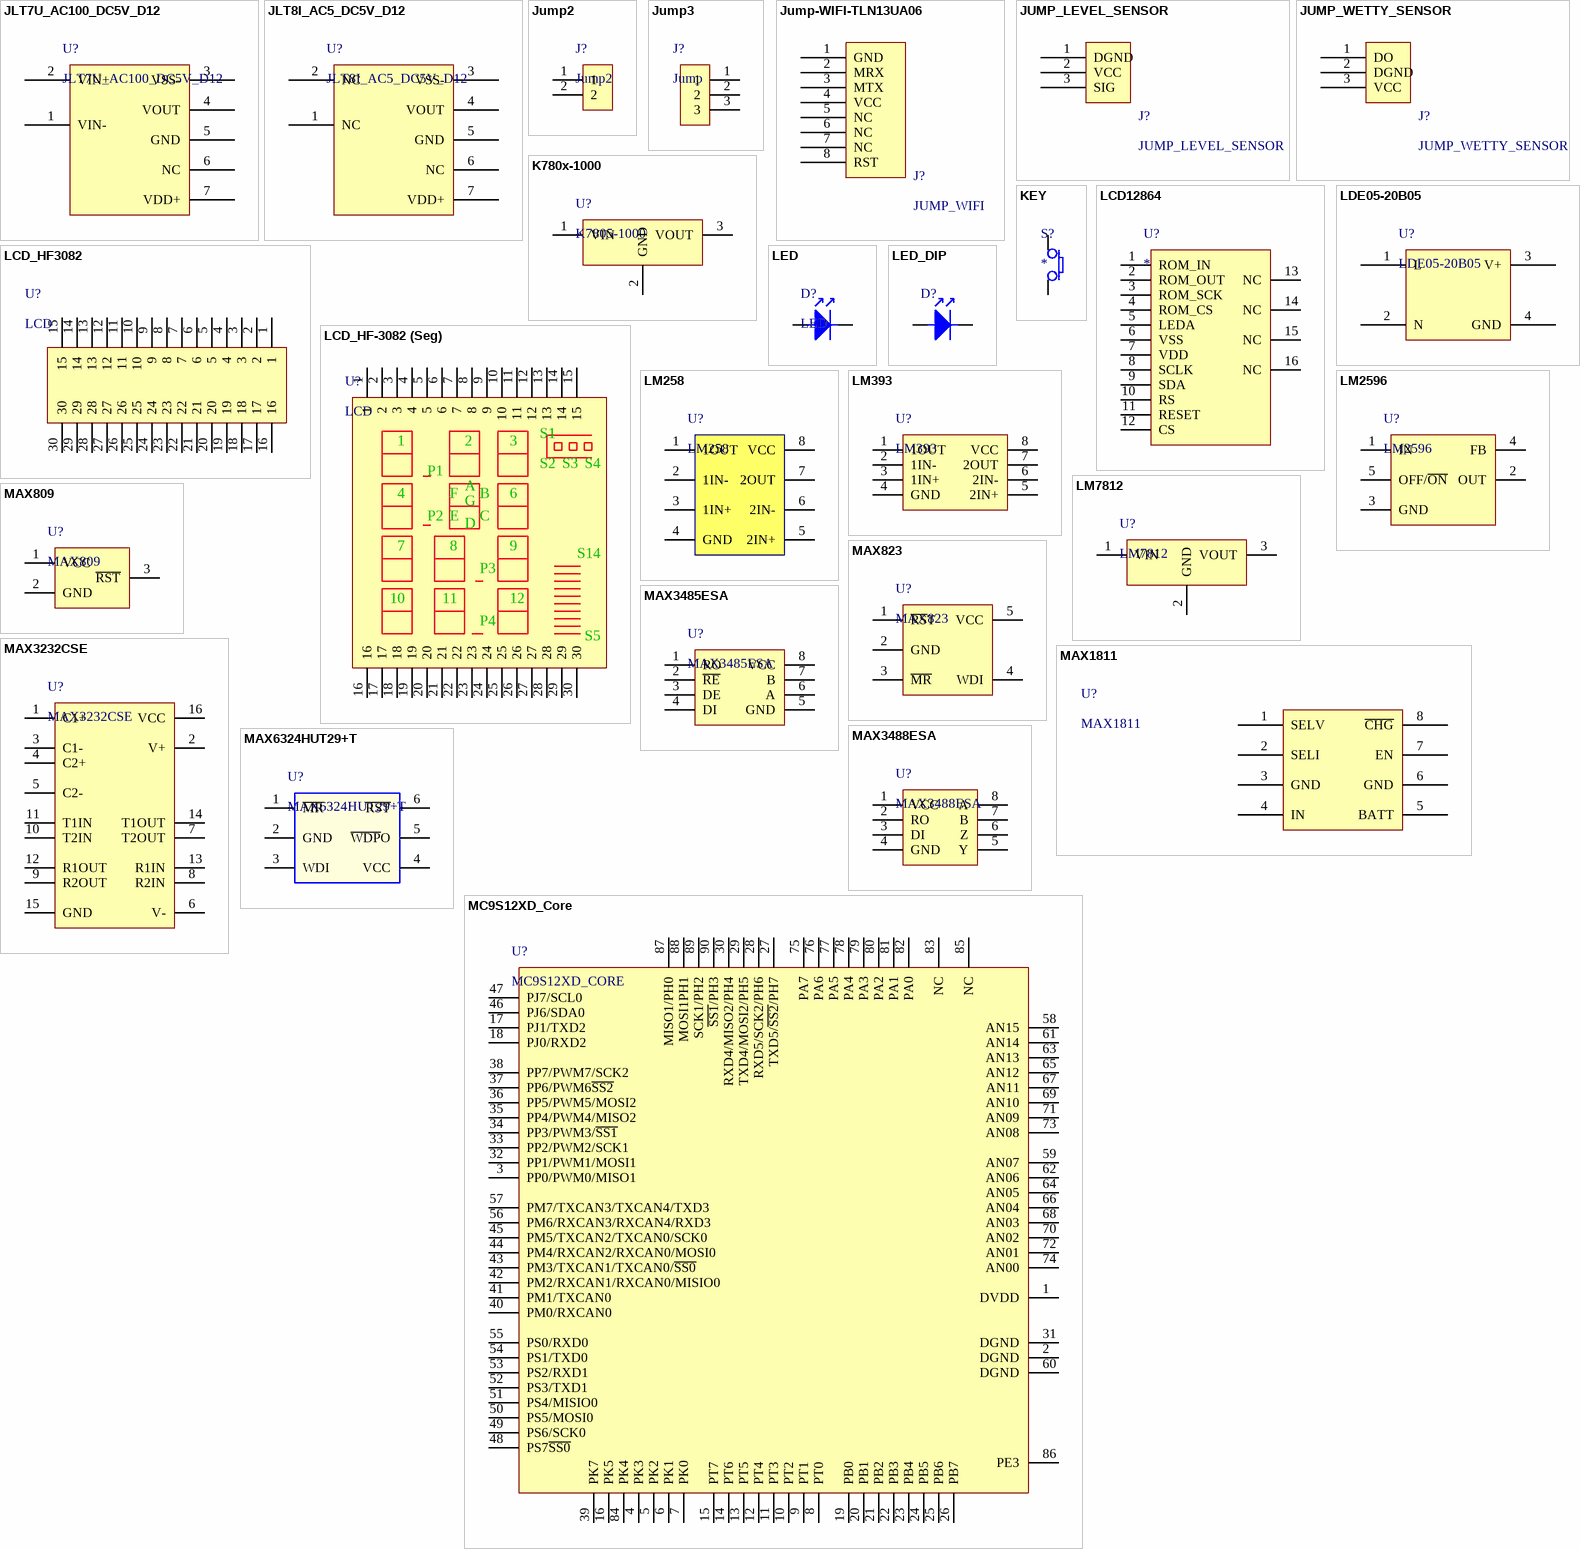
[diagram p4: symbols JLT7U_AC100_DC5V_D12 to MC9S12XD_Core]

## JLT7U_AC100_DC5V_D12
designator U?
footprint JLT7U_AC100_DC5V_D12
pins: 1 VIN-, 2 VIN+, 3 VSS-, 4 VOUT, 5 GND, 6 NC, 7 VDD+

## JLT8I_AC5_DC5V_D12
designator U?
footprint JLT7U_AC100_DC5V_D12
pins: 1 NC, 2 NC, 3 VSS-, 4 VOUT, 5 GND, 6 NC, 7 VDD+

## Jump2
designator J?
footprint 2.54_2P-PIN
pins: 1, 2

## Jump3
designator J?, comment Jump
footprint 2.54_3P-PIN
pins: 1, 2, 3

## Jump-WIFI-TLN13UA06
designator J?, comment JUMP_WIFI
footprint 2.54_4Px2_PHI
pins: 1 GND, 2 MRX, 3 MTX, 4 VCC, 5 NC, 6 NC, 7 NC, 8 RST

## JUMP_LEVEL_SENSOR
designator J?
footprint 2.54_3P_PHI
pins: 1 DGND, 2 VCC, 3 SIG

## JUMP_WETTY_SENSOR
designator J?
footprint 2.54_3P_PHI
pins: 1 DO, 2 DGND, 3 VCC

## K780x-1000
designator U?, comment K7805-1000
footprint K7805
pins: 1 VIN, 2 GND, 3 VOUT

## KEY
designator S?
footprint TurtleBtn
pins: 1, 2

## LCD12864
designator U?
pins: 1 ROM_IN, 2 ROM_OUT, 3 ROM_SCK, 4 ROM_CS, 5 LEDA, 6 VSS, 7 VDD, 8 SCLK, 9 SDA, 10 RS, 11 RESET, 12 CS, 13 NC, 14 NC, 15 NC, 16 NC

## LCD_HF3082
designator U?, comment LCD
pins: 1, 2, 3, 4, 5, 6, 7, 8, 9, 10, 11, 12, 13, 14, 15, 16, 17, 18, 19, 20, 21, 22, 23, 24, 25, 26, 27, 28, 29, 30

## LCD_HF-3082 (Seg)
designator U?, comment LCD
footprint LCD-HF-3082 (LCD Seg DISPLAY)
pins: 1, 2, 3, 4, 5, 6, 7, 8, 9, 10, 11, 12, 13, 14, 15, 16, 17, 18, 19, 20, 21, 22, 23, 24, 25, 26, 27, 28, 29, 30
text: S1; S2; S3; S4; P1; A; F; B; G; P2; E; C; D; S14; P3; P4; S5

## LDE05-20B05
designator U?
footprint LDE05-20B05
pins: 1 L, 2 N, 3 V+, 4 GND

## LED
designator D?
footprint LED
pins: 1, 2

## LED_DIP
designator D?, comment LED  (value not drawn)
footprint LED_2P (100mil)
pins: 1, 2

## LM258
designator U?
footprint SOIC8
pins: 1 1OUT, 2 1IN-, 3 1IN+, 4 GND, 5 2IN+, 6 2IN-, 7 2OUT, 8 VCC

## LM393
designator U?
footprint SO_8 (MAX3485ESA)
pins: 1 1OUT, 2 1IN-, 3 1IN+, 4 GND, 5 2IN+, 6 2IN-, 7 2OUT, 8 VCC

## LM2596
designator U?
footprint TO-263 (LM2596  5PIN)
pins: 1 IN, 2 OUT, 3 GND, 4 FB, 5 OFF/~{ON}

## LM7812
designator U?
footprint LM78XX
pins: 1 VIN, 2 GND, 3 VOUT

## MAX809
designator U?
pins: 1 VCC, 2 GND, 3 ~{RST}

## MAX823
designator U?
pins: 1 ~{RS}T, 2 GND, 3 ~{MR}, 4 WDI, 5 VCC

## MAX1811
designator U?
footprint SO_8 (MAX3485ESA)
pins: 1 SELV, 2 SELI, 3 GND, 4 IN, 5 BATT, 6 GND, 7 EN, 8 ~{CHG}

## MAX3232CSE
designator U?
footprint SO-16
pins: 1 C1+, 2 V+, 3 C1-, 4 C2+, 5 C2-, 6 V-, 7 T2OUT, 8 R2IN, 9 R2OUT, 10 T2IN, 11 T1IN, 12 R1OUT, 13 R1IN, 14 T1OUT, 15 GND, 16 VCC

## MAX3485ESA
designator U?
footprint SO_8 (MAX3485ESA)
pins: 1 RO, 2 ~{RE}, 3 DE, 4 DI, 5 GND, 6 A, 7 B, 8 VCC

## MAX3488ESA
designator U?
footprint SOIC8
pins: 1 VCC, 2 RO, 3 DI, 4 GND, 5 Y, 6 Z, 7 B, 8 A

## MAX6324HUT29+T
designator U?
footprint SOT23-6L
pins: 1 ~{MR}, 2 GND, 3 WDI, 4 VCC, 5 ~{WDP}O, 6 ~{RST}

## MC9S12XD_Core
designator U?, comment MC9S12XD_CORE
footprint 9s12XD_Core
pins: 1 DVDD, 2 DGND, 3 PP0/PWM0/MISO1, 4 PK3, 5 PK2, 6 PK1, 7 PK0, 8 PT0, 9 PT1, 10 PT2, 11 PT3, 12 PT4, 13 PT5, 14 PT6, 15 PT7, 16 PK5, 17 PJ1/TXD2, 18 PJ0/RXD2, 19 PB0, 20 PB1, 21 PB2, 22 PB3, 23 PB4, 24 PB5, 25 PB6, 26 PB7, 27 TXD5/~{SS2}/PH7, 28 RXD5/SCK2/PH6, 29 TXD4/MOSI2/PH5, 30 RXD4/MISO2/PH4, 31 DGND, 32 PP1/PWM1/MOSI1, 33 PP2/PWM2/SCK1, 34 PP3/PWM3/~{SS1}, 35 PP4/PWM4/MISO2, 36 PP5/PWM5/MOSI2, 37 PP6/PWM6~{SS2}, 38 PP7/PWM7/SCK2, 39 PK7, 40 PM0/RXCAN0, 41 PM1/TXCAN0, 42 PM2/RXCAN1/RXCAN0/MISIO0, 43 PM3/TXCAN1/TXCAN0/~{SS0}, 44 PM4/RXCAN2/RXCAN0/MOSI0, 45 PM5/TXCAN2/TXCAN0/SCK0, 46 PJ6/SDA0, 47 PJ7/SCL0, 48 PS7~{SS0}, 49 PS6/SCK0, 50 PS5/MOSI0, 51 PS4/MISIO0, 52 PS3/TXD1, 53 PS2/RXD1, 54 PS1/TXD0, 55 PS0/RXD0, 56 PM6/RXCAN3/RXCAN4/RXD3, 57 PM7/TXCAN3/TXCAN4/TXD3, 58 AN15, 59 AN07, 60 DGND, 61 AN14, 62 AN06, 63 AN13, 64 AN05, 65 AN12, 66 AN04, 67 AN11, 68 AN03, 69 AN10, 70 AN02, 71 AN09, 72 AN01, 73 AN08, 74 AN00, 75 PA7, 76 PA6, 77 PA5, 78 PA4, 79 PA3, 80 PA2, 81 PA1, 82 PA0, 83 NC, 84 PK4, 85 NC, 86 PE3, 87 MISO1/PH0, 88 MOSI1PH1, 89 SCK1/PH2, 90 ~{SS1}/PH3

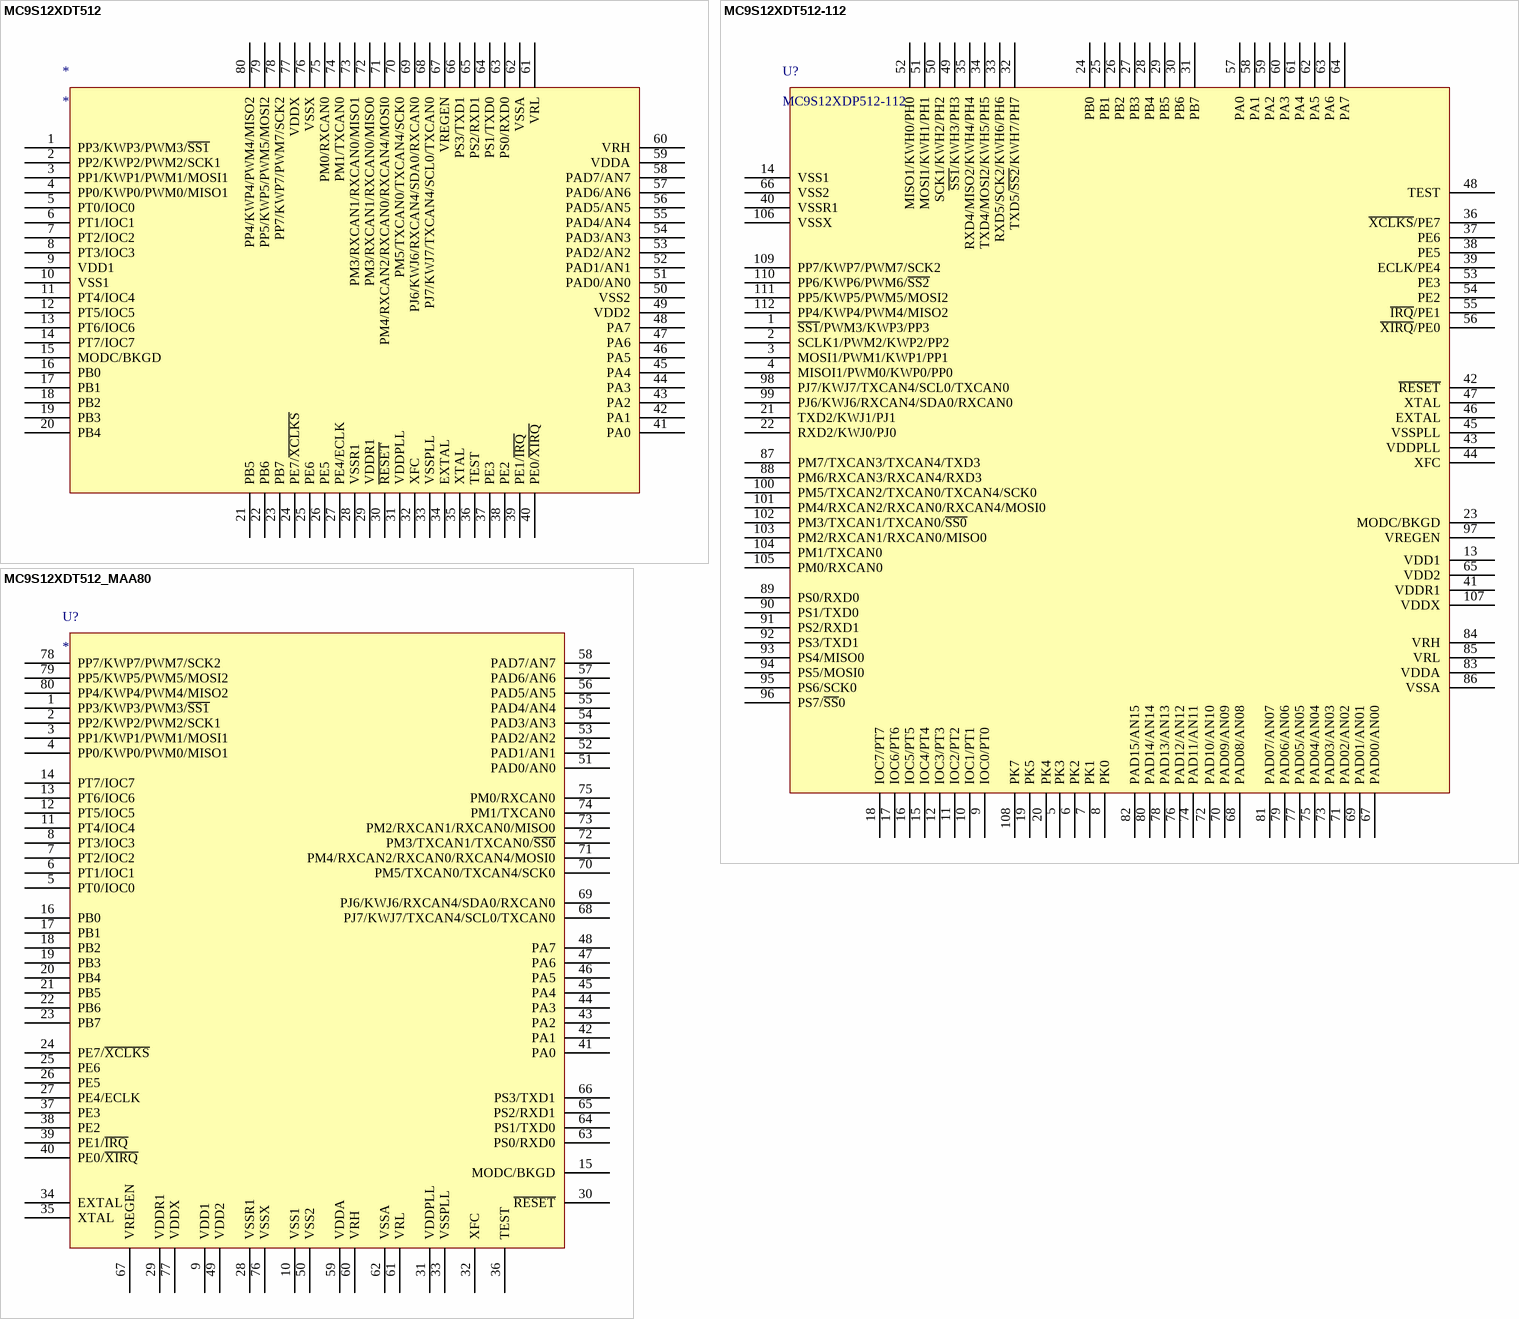
[diagram p5: symbols MC9S12XDT512 to MC9S12XDT512_MAA80]

## MC9S12XDT512
designator *
pins: 1 PP3/KWP3/PWM3/~{SS1}, 2 PP2/KWP2/PWM2/SCK1, 3 PP1/KWP1/PWM1/MOSI1, 4 PP0/KWP0/PWM0/MISO1, 5 PT0/IOC0, 6 PT1/IOC1, 7 PT2/IOC2, 8 PT3/IOC3, 9 VDD1, 10 VSS1, 11 PT4/IOC4, 12 PT5/IOC5, 13 PT6/IOC6, 14 PT7/IOC7, 15 MODC/BKGD, 16 PB0, 17 PB1, 18 PB2, 19 PB3, 20 PB4, 21 PB5, 22 PB6, 23 PB7, 24 PE7/~{XCLKS}, 25 PE6, 26 PE5, 27 PE4/ECLK, 28 VSSR1, 29 VDDR1, 30 ~{RESET}, 31 VDDPLL, 32 XFC, 33 VSSPLL, 34 EXTAL, 35 XTAL, 36 TEST, 37 PE3, 38 PE2, 39 PE1/~{IRQ}, 40 PE0/~{XIRQ}, 41 PA0, 42 PA1, 43 PA2, 44 PA3, 45 PA4, 46 PA5, 47 PA6, 48 PA7, 49 VDD2, 50 VSS2, 51 PAD0/AN0, 52 PAD1/AN1, 53 PAD2/AN2, 54 PAD3/AN3, 55 PAD4/AN4, 56 PAD5/AN5, 57 PAD6/AN6, 58 PAD7/AN7, 59 VDDA, 60 VRH, 61 VRL, 62 VSSA, 63 PS0/RXD0, 64 PS1/TXD0, 65 PS2/RXD1, 66 PS3/TXD1, 67 VREGEN, 68 PJ7/KWJ7/TXCAN4/SCL0/TXCAN0, 69 PJ6/KWJ6/RXCAN4/SDA0/RXCAN0, 70 PM5/TXCAN0/TXCAN4/SCK0, 71 PM4/RXCAN2/RXCAN0/RXCAN4/MOSI0, 72 PM3/RXCAN1/RXCAN0/MISO0, 73 PM3/RXCAN1/RXCAN0/MISO1, 74 PM1/TXCAN0, 75 PM0/RXCAN0, 76 VSSX, 77 VDDX, 78 PP7/KWP7/PWM7/SCK2, 79 PP5/KWP5/PWM5/MOSI2, 80 PP4/KWP4/PWM4/MISO2

## MC9S12XDT512-112
designator U?, comment MC9S12XDP512-112
pins: 1 ~{SS1}/PWM3/KWP3/PP3, 2 SCLK1/PWM2/KWP2/PP2, 3 MOSI1/PWM1/KWP1/PP1, 4 MISOI1/PWM0/KWP0/PP0, 5 PK3, 6 PK2, 7 PK1, 8 PK0, 9 IOC0/PT0, 10 IOC1/PT1, 11 IOC2/PT2, 12 IOC3/PT3, 13 VDD1, 14 VSS1, 15 IOC4/PT4, 16 IOC5/PT5, 17 IOC6/PT6, 18 IOC7/PT7, 19 PK5, 20 PK4, 21 TXD2/KWJ1/PJ1, 22 RXD2/KWJ0/PJ0, 23 MODC/BKGD, 24 PB0, 25 PB1, 26 PB2, 27 PB3, 28 PB4, 29 PB5, 30 PB6, 31 PB7, 32 TXD5/~{SS2}/KWH7/PH7, 33 RXD5/SCK2/KWH6/PH6, 34 TXD4/MOSI2/KWH5/PH5, 35 RXD4/MISO2/KWH4/PH4, 36 ~{XCLKS}/PE7, 37 PE6, 38 PE5, 39 ECLK/PE4, 40 VSSR1, 41 VDDR1, 42 ~{RESET}, 43 VDDPLL, 44 XFC, 45 VSSPLL, 46 EXTAL, 47 XTAL, 48 TEST, 49 ~{SS1}/KWH3/PH3, 50 SCK1/KWH2/PH2, 51 MOSI1/KWH1/PH1, 52 MISO1/KWH0/PH0, 53 PE3, 54 PE2, 55 ~{IRQ}/PE1, 56 ~{XIRQ}/PE0, 57 PA0, 58 PA1, 59 PA2, 60 PA3, 61 PA4, 62 PA5, 63 PA6, 64 PA7, 65 VDD2, 66 VSS2, 67 PAD00/AN00, 68 PAD08/AN08, 69 PAD01/AN01, 70 PAD09/AN09, 71 PAD02/AN02, 72 PAD10/AN10, 73 PAD03/AN03, 74 PAD11/AN11, 75 PAD04/AN04, 76 PAD12/AN12, 77 PAD05/AN05, 78 PAD13/AN13, 79 PAD06/AN06, 80 PAD14/AN14, 81 PAD07/AN07, 82 PAD15/AN15, 83 VDDA, 84 VRH, 85 VRL, 86 VSSA, 87 PM7/TXCAN3/TXCAN4/TXD3, 88 PM6/RXCAN3/RXCAN4/RXD3, 89 PS0/RXD0, 90 PS1/TXD0, 91 PS2/RXD1, 92 PS3/TXD1, 93 PS4/MISO0, 94 PS5/MOSI0, 95 PS6/SCK0, 96 PS7/~{SS}0, 97 VREGEN, 98 PJ7/KWJ7/TXCAN4/SCL0/TXCAN0, 99 PJ6/KWJ6/RXCAN4/SDA0/RXCAN0, 100 PM5/TXCAN2/TXCAN0/TXCAN4/SCK0, 101 PM4/RXCAN2/RXCAN0/RXCAN4/MOSI0, 102 PM3/TXCAN1/TXCAN0/~{SS0}, 103 PM2/RXCAN1/RXCAN0/MISO0, 104 PM1/TXCAN0, 105 PM0/RXCAN0, 106 VSSX, 107 VDDX, 108 PK7, 109 PP7/KWP7/PWM7/SCK2, 110 PP6/KWP6/PWM6/~{SS2}, 111 PP5/KWP5/PWM5/MOSI2, 112 PP4/KWP4/PWM4/MISO2

## MC9S12XDT512_MAA80
designator U?
pins: 1 PP3/KWP3/PWM3/~{SS1}, 2 PP2/KWP2/PWM2/SCK1, 3 PP1/KWP1/PWM1/MOSI1, 4 PP0/KWP0/PWM0/MISO1, 5 PT0/IOC0, 6 PT1/IOC1, 7 PT2/IOC2, 8 PT3/IOC3, 9 VDD1, 10 VSS1, 11 PT4/IOC4, 12 PT5/IOC5, 13 PT6/IOC6, 14 PT7/IOC7, 15 MODC/BKGD, 16 PB0, 17 PB1, 18 PB2, 19 PB3, 20 PB4, 21 PB5, 22 PB6, 23 PB7, 24 PE7/~{XCLKS}, 25 PE6, 26 PE5, 27 PE4/ECLK, 28 VSSR1, 29 VDDR1, 30 ~{RESET}, 31 VDDPLL, 32 XFC, 33 VSSPLL, 34 EXTAL, 35 XTAL, 36 TEST, 37 PE3, 38 PE2, 39 PE1/~{IRQ}, 40 PE0/~{XIRQ}, 41 PA0, 42 PA1, 43 PA2, 44 PA3, 45 PA4, 46 PA5, 47 PA6, 48 PA7, 49 VDD2, 50 VSS2, 51 PAD0/AN0, 52 PAD1/AN1, 53 PAD2/AN2, 54 PAD3/AN3, 55 PAD4/AN4, 56 PAD5/AN5, 57 PAD6/AN6, 58 PAD7/AN7, 59 VDDA, 60 VRH, 61 VRL, 62 VSSA, 63 PS0/RXD0, 64 PS1/TXD0, 65 PS2/RXD1, 66 PS3/TXD1, 67 VREGEN, 68 PJ7/KWJ7/TXCAN4/SCL0/TXCAN0, 69 PJ6/KWJ6/RXCAN4/SDA0/RXCAN0, 70 PM5/TXCAN0/TXCAN4/SCK0, 71 PM4/RXCAN2/RXCAN0/RXCAN4/MOSI0, 72 PM3/TXCAN1/TXCAN0/~{SS0}, 73 PM2/RXCAN1/RXCAN0/MISO0, 74 PM1/TXCAN0, 75 PM0/RXCAN0, 76 VSSX, 77 VDDX, 78 PP7/KWP7/PWM7/SCK2, 79 PP5/KWP5/PWM5/MOSI2, 80 PP4/KWP4/PWM4/MISO2

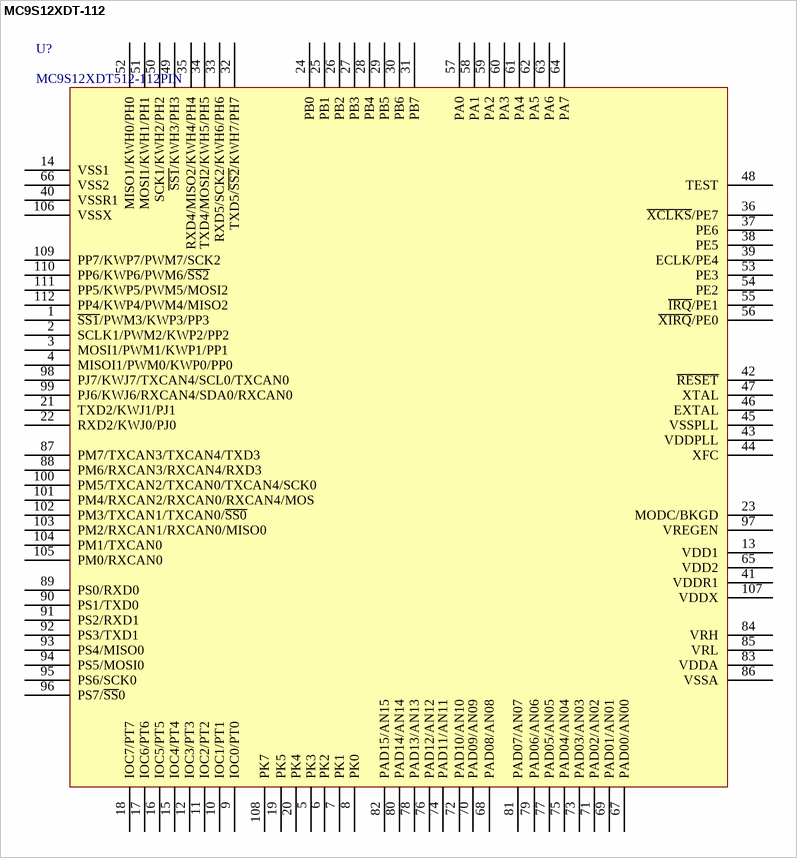
[diagram p6: symbol MC9S12XDT-112]

## MC9S12XDT-112
designator U?, comment MC9S12XDT512-112PIN
pins: 1 ~{SS1}/PWM3/KWP3/PP3, 2 SCLK1/PWM2/KWP2/PP2, 3 MOSI1/PWM1/KWP1/PP1, 4 MISOI1/PWM0/KWP0/PP0, 5 PK3, 6 PK2, 7 PK1, 8 PK0, 9 IOC0/PT0, 10 IOC1/PT1, 11 IOC2/PT2, 12 IOC3/PT3, 13 VDD1, 14 VSS1, 15 IOC4/PT4, 16 IOC5/PT5, 17 IOC6/PT6, 18 IOC7/PT7, 19 PK5, 20 PK4, 21 TXD2/KWJ1/PJ1, 22 RXD2/KWJ0/PJ0, 23 MODC/BKGD, 24 PB0, 25 PB1, 26 PB2, 27 PB3, 28 PB4, 29 PB5, 30 PB6, 31 PB7, 32 TXD5/~{SS2}/KWH7/PH7, 33 RXD5/SCK2/KWH6/PH6, 34 TXD4/MOSI2/KWH5/PH5, 35 RXD4/MISO2/KWH4/PH4, 36 ~{XCLKS}/PE7, 37 PE6, 38 PE5, 39 ECLK/PE4, 40 VSSR1, 41 VDDR1, 42 ~{RESET}, 43 VDDPLL, 44 XFC, 45 VSSPLL, 46 EXTAL, 47 XTAL, 48 TEST, 49 ~{SS1}/KWH3/PH3, 50 SCK1/KWH2/PH2, 51 MOSI1/KWH1/PH1, 52 MISO1/KWH0/PH0, 53 PE3, 54 PE2, 55 ~{IRQ}/PE1, 56 ~{XIRQ}/PE0, 57 PA0, 58 PA1, 59 PA2, 60 PA3, 61 PA4, 62 PA5, 63 PA6, 64 PA7, 65 VDD2, 66 VSS2, 67 PAD00/AN00, 68 PAD08/AN08, 69 PAD01/AN01, 70 PAD09/AN09, 71 PAD02/AN02, 72 PAD10/AN10, 73 PAD03/AN03, 74 PAD11/AN11, 75 PAD04/AN04, 76 PAD12/AN12, 77 PAD05/AN05, 78 PAD13/AN13, 79 PAD06/AN06, 80 PAD14/AN14, 81 PAD07/AN07, 82 PAD15/AN15, 83 VDDA, 84 VRH, 85 VRL, 86 VSSA, 87 PM7/TXCAN3/TXCAN4/TXD3, 88 PM6/RXCAN3/RXCAN4/RXD3, 89 PS0/RXD0, 90 PS1/TXD0, 91 PS2/RXD1, 92 PS3/TXD1, 93 PS4/MISO0, 94 PS5/MOSI0, 95 PS6/SCK0, 96 PS7/~{SS}0, 97 VREGEN, 98 PJ7/KWJ7/TXCAN4/SCL0/TXCAN0, 99 PJ6/KWJ6/RXCAN4/SDA0/RXCAN0, 100 PM5/TXCAN2/TXCAN0/TXCAN4/SCK0, 101 PM4/RXCAN2/RXCAN0/RXCAN4/MOS, 102 PM3/TXCAN1/TXCAN0/~{SS0}, 103 PM2/RXCAN1/RXCAN0/MISO0, 104 PM1/TXCAN0, 105 PM0/RXCAN0, 106 VSSX, 107 VDDX, 108 PK7, 109 PP7/KWP7/PWM7/SCK2, 110 PP6/KWP6/PWM6/~{SS2}, 111 PP5/KWP5/PWM5/MOSI2, 112 PP4/KWP4/PWM4/MISO2

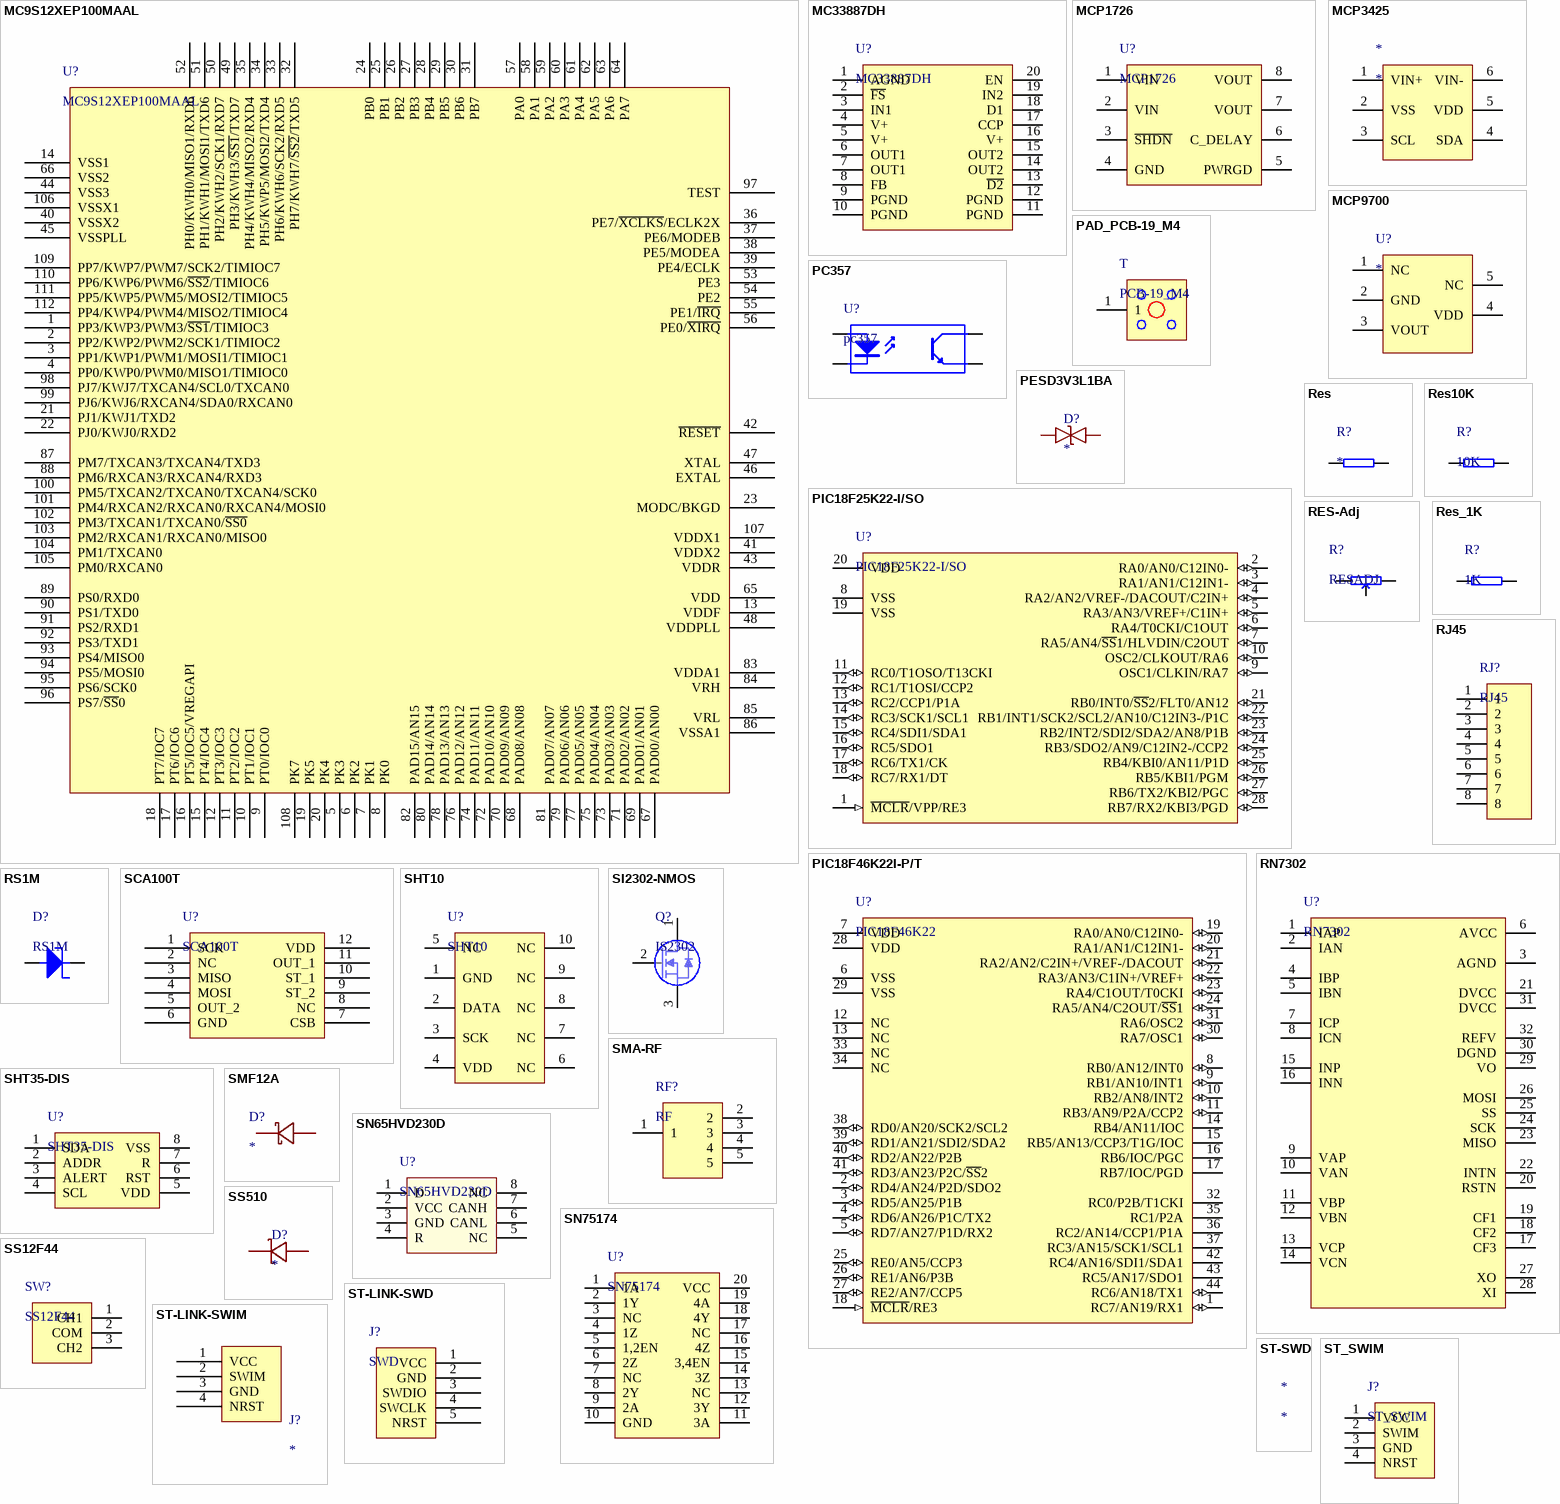
[diagram p7: symbols MC9S12XEP100MAAL to ST_SWIM]

## MC9S12XEP100MAAL
designator U?
footprint QFP112-MC9S12XD (112pin)
pins: 1 PP3/KWP3/PWM3/~{SS1}/TIMIOC3, 2 PP2/KWP2/PWM2/SCK1/TIMIOC2, 3 PP1/KWP1/PWM1/MOSI1/TIMIOC1, 4 PP0/KWP0/PWM0/MISO1/TIMIOC0, 5 PK3, 6 PK2, 7 PK1, 8 PK0, 9 PT0/IOC0, 10 PT1/IOC1, 11 PT2/IOC2, 12 PT3/IOC3, 13 VDDF, 14 VSS1, 15 PT4/IOC4, 16 PT5/IOC5/VREGAPI, 17 PT6/IOC6, 18 PT7/IOC7, 19 PK5, 20 PK4, 21 PJ1/KWJ1/TXD2, 22 PJ0/KWJ0/RXD2, 23 MODC/BKGD, 24 PB0, 25 PB1, 26 PB2, 27 PB3, 28 PB4, 29 PB5, 30 PB6, 31 PB7, 32 PH7/KWH7/~{SS2}/TXD5, 33 PH6/KWH6/SCK2/RXD5, 34 PH5/KWP5/MOSI2/TXD4, 35 PH4/KWH4/MISO2/RXD4, 36 PE7/~{XCLKS}/ECLK2X, 37 PE6/MODEB, 38 PE5/MODEA, 39 PE4/ECLK, 40 VSSX2, 41 VDDX2, 42 ~{RESET}, 43 VDDR, 44 VSS3, 45 VSSPLL, 46 EXTAL, 47 XTAL, 48 VDDPLL, 49 PH3/KWH3/~{SS1}/TXD7, 50 PH2/KWH2/SCK1/RXD7, 51 PH1/KWH1/MOSI1/TXD6, 52 PH0/KWH0/MISO1/RXD6, 53 PE3, 54 PE2, 55 PE1/~{IRQ}, 56 PE0/~{XIRQ}, 57 PA0, 58 PA1, 59 PA2, 60 PA3, 61 PA4, 62 PA5, 63 PA6, 64 PA7, 65 VDD, 66 VSS2, 67 PAD00/AN00, 68 PAD08/AN08, 69 PAD01/AN01, 70 PAD09/AN09, 71 PAD02/AN02, 72 PAD10/AN10, 73 PAD03/AN03, 74 PAD11/AN11, 75 PAD04/AN04, 76 PAD12/AN12, 77 PAD05/AN05, 78 PAD13/AN13, 79 PAD06/AN06, 80 PAD14/AN14, 81 PAD07/AN07, 82 PAD15/AN15, 83 VDDA1, 84 VRH, 85 VRL, 86 VSSA1, 87 PM7/TXCAN3/TXCAN4/TXD3, 88 PM6/RXCAN3/RXCAN4/RXD3, 89 PS0/RXD0, 90 PS1/TXD0, 91 PS2/RXD1, 92 PS3/TXD1, 93 PS4/MISO0, 94 PS5/MOSI0, 95 PS6/SCK0, 96 PS7/~{SS}0, 97 TEST, 98 PJ7/KWJ7/TXCAN4/SCL0/TXCAN0, 99 PJ6/KWJ6/RXCAN4/SDA0/RXCAN0, 100 PM5/TXCAN2/TXCAN0/TXCAN4/SCK0, 101 PM4/RXCAN2/RXCAN0/RXCAN4/MOSI0, 102 PM3/TXCAN1/TXCAN0/~{SS0}, 103 PM2/RXCAN1/RXCAN0/MISO0, 104 PM1/TXCAN0, 105 PM0/RXCAN0, 106 VSSX1, 107 VDDX1, 108 PK7, 109 PP7/KWP7/PWM7/SCK2/TIMIOC7, 110 PP6/KWP6/PWM6/~{SS2}/TIMIOC6, 111 PP5/KWP5/PWM5/MOSI2/TIMIOC5, 112 PP4/KWP4/PWM4/MISO2/TIMIOC4

## MC33887DH
designator U?
footprint HSOP20
pins: 1 AGND, 2 ~{FS}, 3 IN1, 4 V+, 5 V+, 6 OUT1, 7 OUT1, 8 FB, 9 PGND, 10 PGND, 11 PGND, 12 PGND, 13 ~{D2}, 14 OUT2, 15 OUT2, 16 V+, 17 CCP, 18 D1, 19 IN2, 20 EN

## MCP1726
designator U?
footprint SOIC8
pins: 1 VIN, 2 VIN, 3 ~{SHDN}, 4 GND, 5 PWRGD, 6 C_DELAY, 7 VOUT, 8 VOUT

## MCP3425
designator *
pins: 1 VIN+, 2 VSS, 3 SCL, 4 SDA, 5 VDD, 6 VIN-

## MCP9700
designator U?
pins: 1 NC, 2 GND, 3 VOUT, 4 VDD, 5 NC

## PAD_PCB-19_M4
designator T, comment PCB-19_M4
footprint PAD_PCB-19_M4
pins: 1

## PC357
designator U?, comment pc357
footprint PC357
pins: 1 A "Anode", 2 K "Cathode", 3 E "Emitter", 4 C "Collector"

## PESD3V3L1BA
designator D?
pins: 1, 2

## PIC18F25K22-I/SO
designator U?
footprint SOIC-28 (PIC18F25K22-I/SO)
pins: 1 ~{MCLR}/VPP/RE3 (in), 2 RA0/AN0/C12IN0- (io), 3 RA1/AN1/C12IN1- (io), 4 RA2/AN2/VREF-/DACOUT/C2IN+ (io), 5 RA3/AN3/VREF+/C1IN+ (io), 6 RA4/T0CKI/C1OUT (io), 7 RA5/AN4/~{SS}1/HLVDIN/C2OUT (io), 8 VSS (power), 9 OSC1/CLKIN/RA7 (io), 10 OSC2/CLKOUT/RA6 (io), 11 RC0/T1OSO/T13CKI (io), 12 RC1/T1OSI/CCP2 (io), 13 RC2/CCP1/P1A (io), 14 RC3/SCK1/SCL1 (io), 15 RC4/SDI1/SDA1 (io), 16 RC5/SDO1 (io), 17 RC6/TX1/CK (io), 18 RC7/RX1/DT (io), 19 VSS (power), 20 VDD (power), 21 RB0/INT0/~{SS}2/FLT0/AN12 (io), 22 RB1/INT1/SCK2/SCL2/AN10/C12IN3-/P1C (io), 23 RB2/INT2/SDI2/SDA2/AN8/P1B (io), 24 RB3/SDO2/AN9/C12IN2-/CCP2 (io), 25 RB4/KBI0/AN11/P1D (io), 26 RB5/KBI1/PGM (io), 27 RB6/TX2/KBI2/PGC (io), 28 RB7/RX2/KBI3/PGD (io)

## PIC18F46K22I-P/T
designator U?, comment PIC18F46K22
footprint TQFP44
pins: 1 RC7/AN19/RX1 (io), 2 RD4/AN24/P2D/SDO2 (io), 3 RD5/AN25/P1B (io), 4 RD6/AN26/P1C/TX2 (io), 5 RD7/AN27/P1D/RX2 (io), 6 VSS, 7 VDD, 8 RB0/AN12/INT0 (io), 9 RB1/AN10/INT1 (io), 10 RB2/AN8/INT2 (io), 11 RB3/AN9/P2A/CCP2 (io), 12 NC, 13 NC, 14 RB4/AN11/IOC, 15 RB5/AN13/CCP3/T1G/IOC, 16 RB6/IOC/PGC, 17 RB7/IOC/PGD, 18 ~{MCLR}/RE3 (in), 19 RA0/AN0/C12IN0- (io), 20 RA1/AN1/C12IN1- (io), 21 RA2/AN2/C2IN+/VREF-/DACOUT (io), 22 RA3/AN3/C1IN+/VREF+ (io), 23 RA4/C1OUT/T0CKI (io), 24 RA5/AN4/C2OUT/~{SS}1 (io), 25 RE0/AN5/CCP3 (io), 26 RE1/AN6/P3B (io), 27 RE2/AN7/CCP5 (io), 28 VDD, 29 VSS, 30 RA7/OSC1 (io), 31 RA6/OSC2 (io), 32 RC0/P2B/T1CKI, 33 NC, 34 NC, 35 RC1/P2A, 36 RC2/AN14/CCP1/P1A, 37 RC3/AN15/SCK1/SCL1, 38 RD0/AN20/SCK2/SCL2 (io), 39 RD1/AN21/SDI2/SDA2 (io), 40 RD2/AN22/P2B (io), 41 RD3/AN23/P2C/~{SS}2 (io), 42 RC4/AN16/SDI1/SDA1, 43 RC5/AN17/SDO1, 44 RC6/AN18/TX1 (io)

## Res
designator R?
Value: *
footprint 0805R
pins: 1, 2

## Res10K
designator R?, comment 10K
footprint 0805R
pins: 1, 2

## RES-Adj
designator R?, comment RESADJ
footprint VR5
pins: 1, 2, 3

## Res_1K
designator R?, comment 1K
footprint 0805R
pins: 1, 2

## RJ45
designator RJ?
footprint RJ45
pins: 1, 2, 3, 4, 5, 6, 7, 8

## RN7302
designator U?
footprint LQFP32
pins: 1 IAP, 2 IAN, 3 AGND, 4 IBP, 5 IBN, 6 AVCC, 7 ICP, 8 ICN, 9 VAP, 10 VAN, 11 VBP, 12 VBN, 13 VCP, 14 VCN, 15 INP, 16 INN, 17 CF3, 18 CF2, 19 CF1, 20 RSTN, 21 DVCC, 22 INTN, 23 MISO, 24 SCK, 25 SS, 26 MOSI, 27 XO, 28 XI, 29 VO, 30 DGND, 31 DVCC, 32 REFV

## RS1M
designator D?
footprint SMA (RS1M)
pins: 1, 2

## SCA100T
designator U?
footprint SCA100T
pins: 1 SCK, 2 NC, 3 MISO, 4 MOSI, 5 OUT_2, 6 GND, 7 CSB, 8 NC, 9 ST_2, 10 ST_1, 11 OUT_1, 12 VDD

## SHT10
designator U?
footprint SHT1x (WetTempSensor SHT1x Series)
pins: 1 GND, 2 DATA, 3 SCK, 4 VDD, 5 NC, 6 NC, 7 NC, 8 NC, 9 NC, 10 NC

## SHT35-DIS
designator U?
footprint SHT35
pins: 1 SDA, 2 ADDR, 3 ALERT, 4 SCL, 5 VDD, 6 RST, 7 R, 8 VSS

## SI2302-NMOS
designator Q?, comment IS2302
footprint SOT-23-3
pins: 1 D, 2 G, 3 S

## SMA-RF
designator RF?, comment RF
footprint SMA-1
pins: 1, 2, 3, 4, 5

## SMF12A
designator D?
pins: 1 K, 2 A

## SN65HVD230D
designator U?
footprint SOIC8
pins: 1 D, 2 VCC, 3 GND, 4 R, 5 NC, 6 CANL, 7 CANH, 8 NC

## SN75174
designator U?
pins: 1 1A, 2 1Y, 3 NC, 4 1Z, 5 1,2EN, 6 2Z, 7 NC, 8 2Y, 9 2A, 10 GND, 11 3A, 12 3Y, 13 NC, 14 3Z, 15 3,4EN, 16 4Z, 17 NC, 18 4Y, 19 4A, 20 VCC

## SS12F44
designator SW?
footprint SS12F44
pins: 1 CH1, 2 COM, 3 CH2

## SS510
designator D?
pins: 1, 2

## ST-LINK-SWD
designator J?, comment SWD
footprint 2.54_5P_PHI
pins: 1 VCC, 2 GND, 3 SWDIO, 4 SWCLK, 5 NRST

## ST-LINK-SWIM
designator J?
footprint 2.54_4P_PHI
pins: 1 VCC, 2 SWIM, 3 GND, 4 NRST

## ST-SWD
designator *

## ST_SWIM
designator J?
footprint 2.54_4P_PHI
pins: 1 VCC, 2 SWIM, 3 GND, 4 NRST

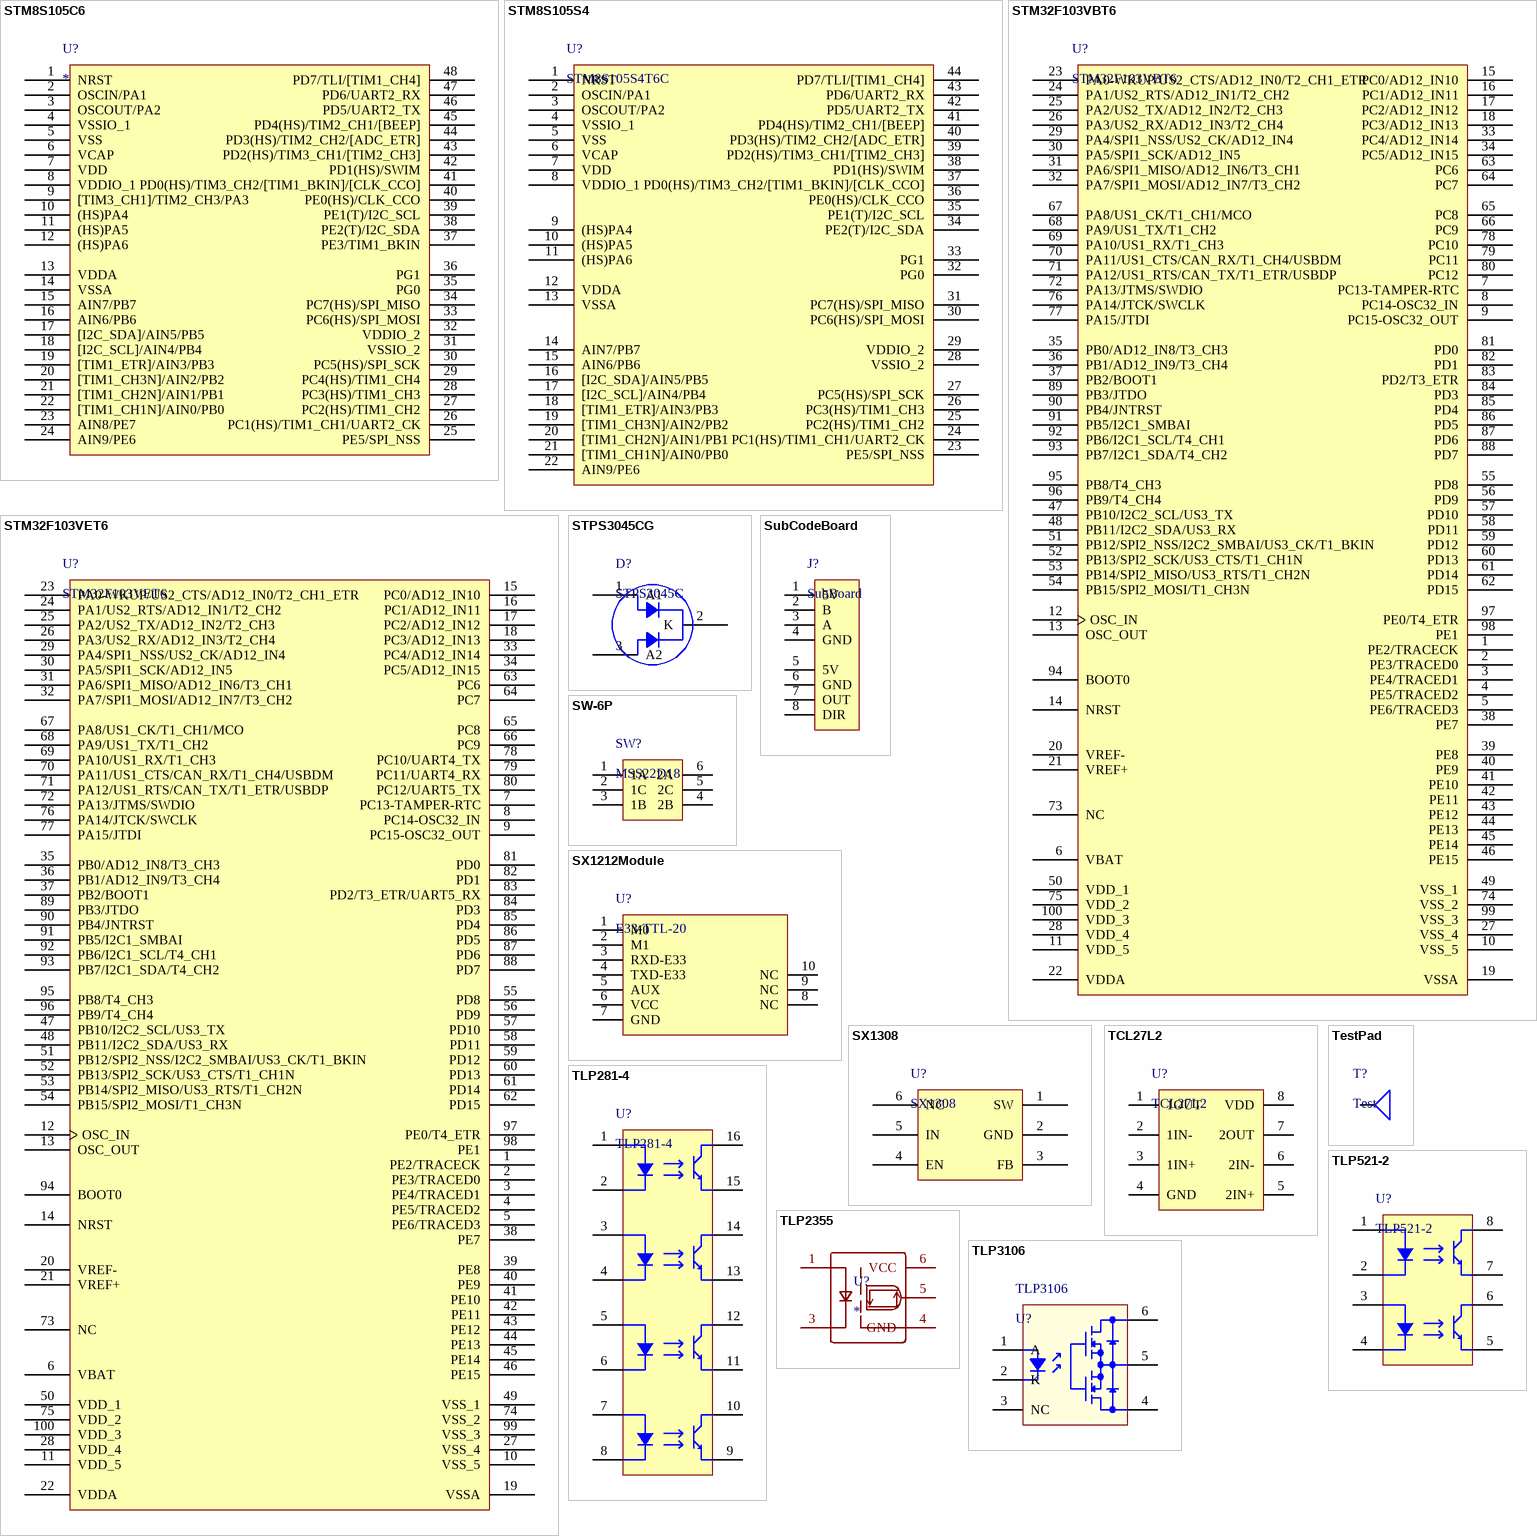
[diagram p8: symbols STM8S105C6 to TLP3106]

## STM8S105C6
designator U?
footprint LQFP-48
pins: 1 NRST, 2 OSCIN/PA1, 3 OSCOUT/PA2, 4 VSSIO_1, 5 VSS, 6 VCAP, 7 VDD, 8 VDDIO_1, 9 [TIM3_CH1]/TIM2_CH3/PA3, 10 (HS)PA4, 11 (HS)PA5, 12 (HS)PA6, 13 VDDA, 14 VSSA, 15 AIN7/PB7, 16 AIN6/PB6, 17 [I2C_SDA]/AIN5/PB5, 18 [I2C_SCL]/AIN4/PB4, 19 [TIM1_ETR]/AIN3/PB3, 20 [TIM1_CH3N]/AIN2/PB2, 21 [TIM1_CH2N]/AIN1/PB1, 22 [TIM1_CH1N]/AIN0/PB0, 23 AIN8/PE7, 24 AIN9/PE6, 25 PE5/SPI_NSS, 26 PC1(HS)/TIM1_CH1/UART2_CK, 27 PC2(HS)/TIM1_CH2, 28 PC3(HS)/TIM1_CH3, 29 PC4(HS)/TIM1_CH4, 30 PC5(HS)/SPI_SCK, 31 VSSIO_2, 32 VDDIO_2, 33 PC6(HS)/SPI_MOSI, 34 PC7(HS)/SPI_MISO, 35 PG0, 36 PG1, 37 PE3/TIM1_BKIN, 38 PE2(T)/I2C_SDA, 39 PE1(T)/I2C_SCL, 40 PE0(HS)/CLK_CCO, 41 PD0(HS)/TIM3_CH2/[TIM1_BKIN]/[CLK_CCO], 42 PD1(HS)/SWIM, 43 PD2(HS)/TIM3_CH1/[TIM2_CH3], 44 PD3(HS)/TIM2_CH2/[ADC_ETR], 45 PD4(HS)/TIM2_CH1/[BEEP], 46 PD5/UART2_TX, 47 PD6/UART2_RX, 48 PD7/TLI/[TIM1_CH4]

## STM8S105S4
designator U?, comment STM8S105S4T6C
footprint LQFP44 (STM32S105S4)
pins: 1 NRST, 2 OSCIN/PA1, 3 OSCOUT/PA2, 4 VSSIO_1, 5 VSS, 6 VCAP, 7 VDD, 8 VDDIO_1, 9 (HS)PA4, 10 (HS)PA5, 11 (HS)PA6, 12 VDDA, 13 VSSA, 14 AIN7/PB7, 15 AIN6/PB6, 16 [I2C_SDA]/AIN5/PB5, 17 [I2C_SCL]/AIN4/PB4, 18 [TIM1_ETR]/AIN3/PB3, 19 [TIM1_CH3N]/AIN2/PB2, 20 [TIM1_CH2N]/AIN1/PB1, 21 [TIM1_CH1N]/AIN0/PB0, 22 AIN9/PE6, 23 PE5/SPI_NSS, 24 PC1(HS)/TIM1_CH1/UART2_CK, 25 PC2(HS)/TIM1_CH2, 26 PC3(HS)/TIM1_CH3, 27 PC5(HS)/SPI_SCK, 28 VSSIO_2, 29 VDDIO_2, 30 PC6(HS)/SPI_MOSI, 31 PC7(HS)/SPI_MISO, 32 PG0, 33 PG1, 34 PE2(T)/I2C_SDA, 35 PE1(T)/I2C_SCL, 36 PE0(HS)/CLK_CCO, 37 PD0(HS)/TIM3_CH2/[TIM1_BKIN]/[CLK_CCO], 38 PD1(HS)/SWIM, 39 PD2(HS)/TIM3_CH1/[TIM2_CH3], 40 PD3(HS)/TIM2_CH2/[ADC_ETR], 41 PD4(HS)/TIM2_CH1/[BEEP], 42 PD5/UART2_TX, 43 PD6/UART2_RX, 44 PD7/TLI/[TIM1_CH4]

## STM32F103VBT6
designator U?
footprint LQFP100 (STM32F013VBT6)
pins: 1 PE2/TRACECK, 2 PE3/TRACED0, 3 PE4/TRACED1, 4 PE5/TRACED2, 5 PE6/TRACED3, 6 VBAT (power), 7 PC13-TAMPER-RTC, 8 PC14-OSC32_IN, 9 PC15-OSC32_OUT, 10 VSS_5 (power), 11 VDD_5 (power), 12 OSC_IN, 13 OSC_OUT, 14 NRST, 15 PC0/AD12_IN10, 16 PC1/AD12_IN11, 17 PC2/AD12_IN12, 18 PC3/AD12_IN13, 19 VSSA (power), 20 VREF- (power), 21 VREF+ (power), 22 VDDA (power), 23 PA0-WKUP/US2_CTS/AD12_IN0/T2_CH1_ETR, 24 PA1/US2_RTS/AD12_IN1/T2_CH2, 25 PA2/US2_TX/AD12_IN2/T2_CH3, 26 PA3/US2_RX/AD12_IN3/T2_CH4, 27 VSS_4 (power), 28 VDD_4 (power), 29 PA4/SPI1_NSS/US2_CK/AD12_IN4, 30 PA5/SPI1_SCK/AD12_IN5, 31 PA6/SPI1_MISO/AD12_IN6/T3_CH1, 32 PA7/SPI1_MOSI/AD12_IN7/T3_CH2, 33 PC4/AD12_IN14, 34 PC5/AD12_IN15, 35 PB0/AD12_IN8/T3_CH3, 36 PB1/AD12_IN9/T3_CH4, 37 PB2/BOOT1, 38 PE7, 39 PE8, 40 PE9, 41 PE10, 42 PE11, 43 PE12, 44 PE13, 45 PE14, 46 PE15, 47 PB10/I2C2_SCL/US3_TX, 48 PB11/I2C2_SDA/US3_RX, 49 VSS_1 (power), 50 VDD_1 (power), 51 PB12/SPI2_NSS/I2C2_SMBAI/US3_CK/T1_BKIN, 52 PB13/SPI2_SCK/US3_CTS/T1_CH1N, 53 PB14/SPI2_MISO/US3_RTS/T1_CH2N, 54 PB15/SPI2_MOSI/T1_CH3N, 55 PD8, 56 PD9, 57 PD10, 58 PD11, 59 PD12, 60 PD13, 61 PD14, 62 PD15, 63 PC6, 64 PC7, 65 PC8, 66 PC9, 67 PA8/US1_CK/T1_CH1/MCO, 68 PA9/US1_TX/T1_CH2, 69 PA10/US1_RX/T1_CH3, 70 PA11/US1_CTS/CAN_RX/T1_CH4/USBDM, 71 PA12/US1_RTS/CAN_TX/T1_ETR/USBDP, 72 PA13/JTMS/SWDIO, 73 NC, 74 VSS_2 (power), 75 VDD_2 (power), 76 PA14/JTCK/SWCLK, 77 PA15/JTDI, 78 PC10, 79 PC11, 80 PC12, 81 PD0, 82 PD1, 83 PD2/T3_ETR, 84 PD3, 85 PD4, 86 PD5, 87 PD6, 88 PD7, 89 PB3/JTDO, 90 PB4/JNTRST, 91 PB5/I2C1_SMBAI, 92 PB6/I2C1_SCL/T4_CH1, 93 PB7/I2C1_SDA/T4_CH2, 94 BOOT0, 95 PB8/T4_CH3, 96 PB9/T4_CH4, 97 PE0/T4_ETR, 98 PE1, 99 VSS_3 (power), 100 VDD_3 (power)

## STM32F103VET6
designator U?
footprint LQFP100 (STM32F013VBT6)
pins: 1 PE2/TRACECK, 2 PE3/TRACED0, 3 PE4/TRACED1, 4 PE5/TRACED2, 5 PE6/TRACED3, 6 VBAT (power), 7 PC13-TAMPER-RTC, 8 PC14-OSC32_IN, 9 PC15-OSC32_OUT, 10 VSS_5 (power), 11 VDD_5 (power), 12 OSC_IN, 13 OSC_OUT, 14 NRST, 15 PC0/AD12_IN10, 16 PC1/AD12_IN11, 17 PC2/AD12_IN12, 18 PC3/AD12_IN13, 19 VSSA (power), 20 VREF- (power), 21 VREF+ (power), 22 VDDA (power), 23 PA0-WKUP/US2_CTS/AD12_IN0/T2_CH1_ETR, 24 PA1/US2_RTS/AD12_IN1/T2_CH2, 25 PA2/US2_TX/AD12_IN2/T2_CH3, 26 PA3/US2_RX/AD12_IN3/T2_CH4, 27 VSS_4 (power), 28 VDD_4 (power), 29 PA4/SPI1_NSS/US2_CK/AD12_IN4, 30 PA5/SPI1_SCK/AD12_IN5, 31 PA6/SPI1_MISO/AD12_IN6/T3_CH1, 32 PA7/SPI1_MOSI/AD12_IN7/T3_CH2, 33 PC4/AD12_IN14, 34 PC5/AD12_IN15, 35 PB0/AD12_IN8/T3_CH3, 36 PB1/AD12_IN9/T3_CH4, 37 PB2/BOOT1, 38 PE7, 39 PE8, 40 PE9, 41 PE10, 42 PE11, 43 PE12, 44 PE13, 45 PE14, 46 PE15, 47 PB10/I2C2_SCL/US3_TX, 48 PB11/I2C2_SDA/US3_RX, 49 VSS_1 (power), 50 VDD_1 (power), 51 PB12/SPI2_NSS/I2C2_SMBAI/US3_CK/T1_BKIN, 52 PB13/SPI2_SCK/US3_CTS/T1_CH1N, 53 PB14/SPI2_MISO/US3_RTS/T1_CH2N, 54 PB15/SPI2_MOSI/T1_CH3N, 55 PD8, 56 PD9, 57 PD10, 58 PD11, 59 PD12, 60 PD13, 61 PD14, 62 PD15, 63 PC6, 64 PC7, 65 PC8, 66 PC9, 67 PA8/US1_CK/T1_CH1/MCO, 68 PA9/US1_TX/T1_CH2, 69 PA10/US1_RX/T1_CH3, 70 PA11/US1_CTS/CAN_RX/T1_CH4/USBDM, 71 PA12/US1_RTS/CAN_TX/T1_ETR/USBDP, 72 PA13/JTMS/SWDIO, 73 NC, 74 VSS_2 (power), 75 VDD_2 (power), 76 PA14/JTCK/SWCLK, 77 PA15/JTDI, 78 PC10/UART4_TX, 79 PC11/UART4_RX, 80 PC12/UART5_TX, 81 PD0, 82 PD1, 83 PD2/T3_ETR/UART5_RX, 84 PD3, 85 PD4, 86 PD5, 87 PD6, 88 PD7, 89 PB3/JTDO, 90 PB4/JNTRST, 91 PB5/I2C1_SMBAI, 92 PB6/I2C1_SCL/T4_CH1, 93 PB7/I2C1_SDA/T4_CH2, 94 BOOT0, 95 PB8/T4_CH3, 96 PB9/T4_CH4, 97 PE0/T4_ETR, 98 PE1, 99 VSS_3 (power), 100 VDD_3 (power)

## STPS3045CG
designator D?, comment STPS2045C
footprint D2PAK
pins: 1 A1, 2 K, 3 A2

## SubCodeBoard
designator J?, comment SubBoard
pins: 1 5V, 2 B, 3 A, 4 GND, 5 5V, 6 GND, 7 OUT, 8 DIR

## SW-6P
designator SW?, comment MSS22D18
footprint SW-6P
pins: 1 1A, 2 1C, 3 1B, 4 2B, 5 2C, 6 2A

## SX1212Module
designator U?, comment E33-TTL-20
footprint SX1212Module
pins: 1 M0, 2 M1, 3 RXD-E33, 4 TXD-E33, 5 AUX, 6 VCC, 7 GND, 8 NC, 9 NC, 10 NC

## SX1308
designator U?
footprint SOT23-6L
pins: 1 SW, 2 GND, 3 FB, 4 EN, 5 IN, 6 NC

## TCL27L2
designator U?
pins: 1 1OUT, 2 1IN-, 3 1IN+, 4 GND, 5 2IN+, 6 2IN-, 7 2OUT, 8 VDD

## TestPad
designator T?, comment Test
footprint Testpoint
pins: 1

## TLP281-4
designator U?
footprint SOP16
pins: 1 A1, 2 K1, 3 A2, 4 K2, 5 A1, 6 K1, 7 A2, 8 K2, 9 E2, 10 C2, 11 E1, 12 C1, 13 E2, 14 C2, 15 E1, 16 C1

## TLP521-2
designator U?
footprint SOP8-TLP521 (TLP521-4)
pins: 1 A1, 2 K1, 3 A2, 4 K2, 5 E2, 6 C2, 7 E1, 8 C1

## TLP2355
designator U?
pins: 1 AN, 3 CAT, 4 GND, 5 VO, 6 VCC

## TLP3106
designator TLP3106, comment U?
pins: 1 A, 2 K, 3 NC, 4 DRAIN, 5 SOURCE, 6 DRAIN

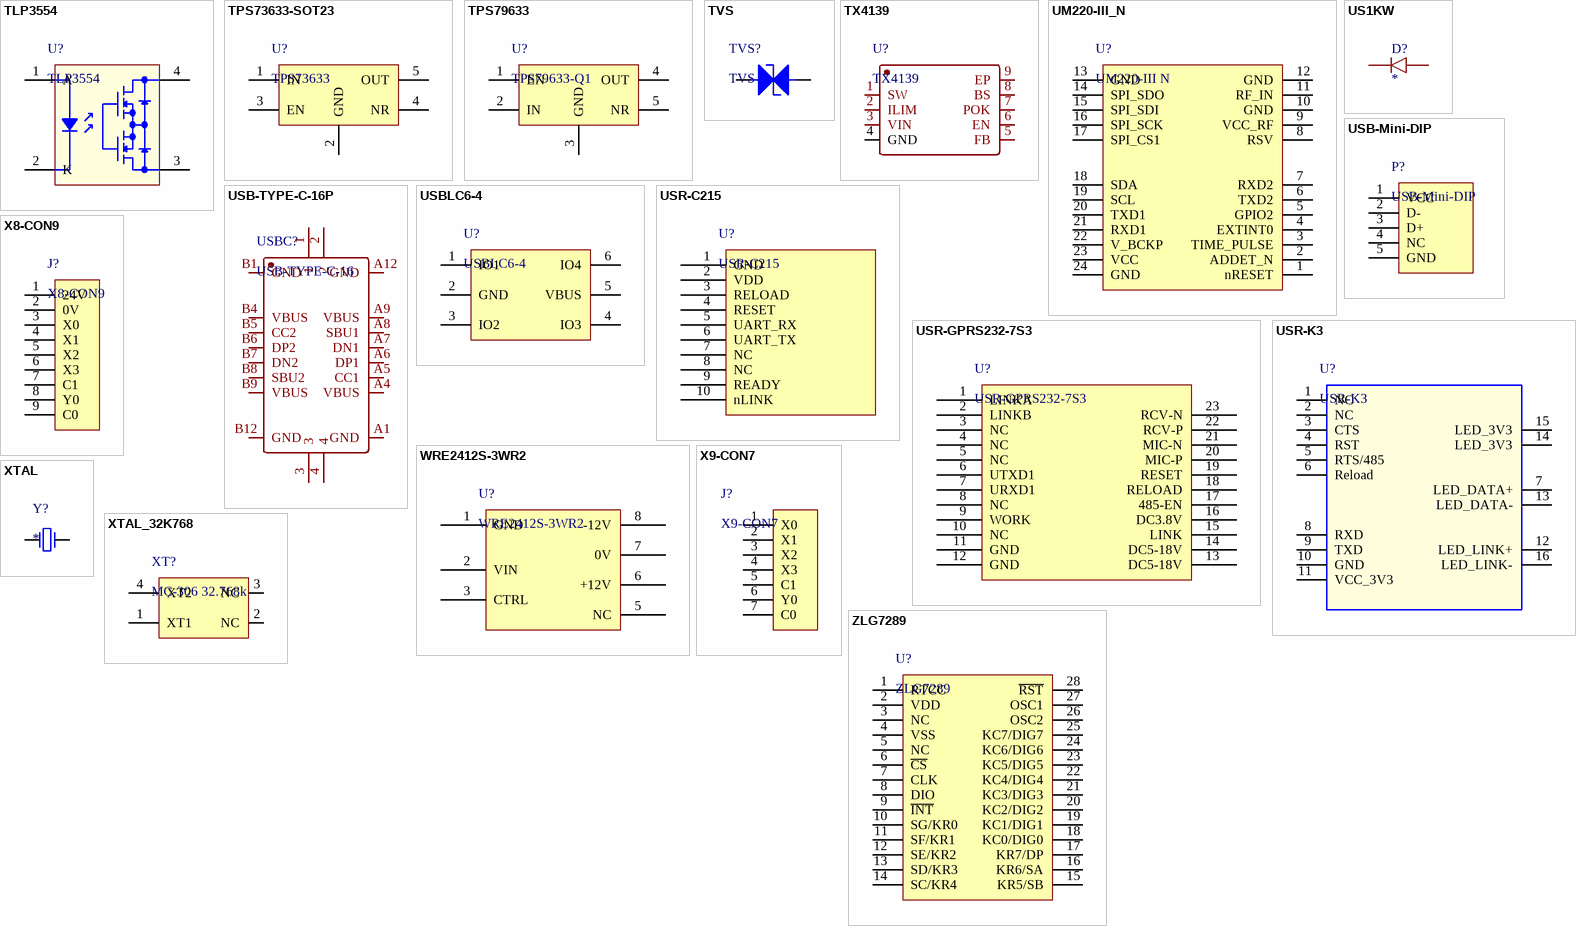
[diagram p9: symbols TLP3554 to ZLG7289]

## TLP3554
designator U?
footprint DIP4 (TL521)
pins: 1 A, 2 K, 3 DRAIN, 4 DRAIN

## TPS73633-SOT23
designator U?, comment TPS73633
pins: 1 IN, 2 GND, 3 EN, 4 NR, 5 OUT

## TPS79633
designator U?, comment TPS79633-Q1
pins: 1 EN, 2 IN, 3 GND, 4 OUT, 5 NR

## TVS
designator TVS?
footprint SMB-TVSCA
pins: 1, 2

## TX4139
designator U?
footprint ESOP8
pins: 1 SW, 2 ILIM, 3 VIN, 4 GND, 5 FB, 6 EN, 7 POK, 8 BS, 9 EP

## UM220-III_N
designator U?, comment UM220-III N
footprint UM220-III-N
pins: 1 nRESET, 2 ADDET_N, 3 TIME_PULSE, 4 EXTINT0, 5 GPIO2, 6 TXD2, 7 RXD2, 8 RSV, 9 VCC_RF, 10 GND, 11 RF_IN, 12 GND, 13 GND, 14 SPI_SDO, 15 SPI_SDI, 16 SPI_SCK, 17 SPI_CS1, 18 SDA, 19 SCL, 20 TXD1, 21 RXD1, 22 V_BCKP, 23 VCC, 24 GND

## US1KW
designator D?
footprint DSK110 (SOD-123)
pins: 1 C, 2 A

## USB-Mini-DIP
designator P?
footprint USB-Mini-B-DIP
pins: 1 VCC, 2 D-, 3 D+, 4 NC, 5 GND

## USB-TYPE-C-16P
designator USBC?, comment USB-TYPE-C-16
footprint TYPE-C-USB-17
pins: 1, 2, 3, 4, A1 GND, A4 VBUS, A5 CC1, A6 DP1, A7 DN1, A8 SBU1, A9 VBUS, A12 GND, B1 GND, B4 VBUS, B5 CC2, B6 DP2, B7 DN2, B8 SBU2, B9 VBUS, B12 GND

## USBLC6-4
designator U?
footprint SOT23-6L
pins: 1 IO1, 2 GND, 3 IO2, 4 IO3, 5 VBUS, 6 IO4

## USR-C215
designator U?
footprint USR-C215
pins: 1 GND, 2 VDD, 3 RELOAD, 4 RESET, 5 UART_RX, 6 UART_TX, 7 NC, 8 NC, 9 READY, 10 nLINK

## USR-GPRS232-7S3
designator U?
footprint USR-GPRS232-7S3
pins: 1 LINKA, 2 LINKB, 3 NC, 4 NC, 5 NC, 6 UTXD1, 7 URXD1, 8 NC, 9 WORK, 10 NC, 11 GND, 12 GND, 13 DC5-18V, 14 DC5-18V, 15 LINK, 16 DC3.8V, 17 485-EN, 18 RELOAD, 19 RESET, 20 MIC-P, 21 MIC-N, 22 RCV-P, 23 RCV-N

## USR-K3
designator U?
footprint USR-K3
pins: 1 NC, 2 NC, 3 CTS, 4 RST, 5 RTS/485, 6 Reload, 7 LED_DATA+, 8 RXD, 9 TXD, 10 GND, 11 VCC_3V3, 12 LED_LINK+, 13 LED_DATA-, 14 LED_3V3, 15 LED_3V3, 16 LED_LINK-

## WRE2412S-3WR2
designator U?
footprint WRE2412S-3WR2
pins: 1 GND, 2 VIN, 3 CTRL, 5 NC, 6 +12V, 7 0V, 8 -12V

## X8-CON9
designator J?
pins: 1 24V, 2 0V, 3 X0, 4 X1, 5 X2, 6 X3, 7 C1, 8 Y0, 9 C0

## X9-CON7
designator J?
pins: 1 X0, 2 X1, 3 X2, 4 X3, 5 C1, 6 Y0, 7 C0

## XTAL
designator Y?
footprint XTAL
pins: 1, 2

## XTAL_32K768
designator XT?, comment MC-306 32.768k
footprint MC-306 32.768k
pins: 1 XT1, 2 NC, 3 NC, 4 XT2

## ZLG7289
designator U?
footprint SOIC_SO28 (PIC18F26K22)
pins: 1 RTCC, 2 VDD, 3 NC, 4 VSS, 5 NC, 6 ~{CS}, 7 CLK, 8 DIO, 9 ~{INT}, 10 SG/KR0, 11 SF/KR1, 12 SE/KR2, 13 SD/KR3, 14 SC/KR4, 15 KR5/SB, 16 KR6/SA, 17 KR7/DP, 18 KC0/DIG0, 19 KC1/DIG1, 20 KC2/DIG2, 21 KC3/DIG3, 22 KC4/DIG4, 23 KC5/DIG5, 24 KC6/DIG6, 25 KC7/DIG7, 26 OSC2, 27 OSC1, 28 ~{RST}